# Altium integrated library Renesas Microcontroller H8S.IntLib: 670 symbols (part 31 of 70)
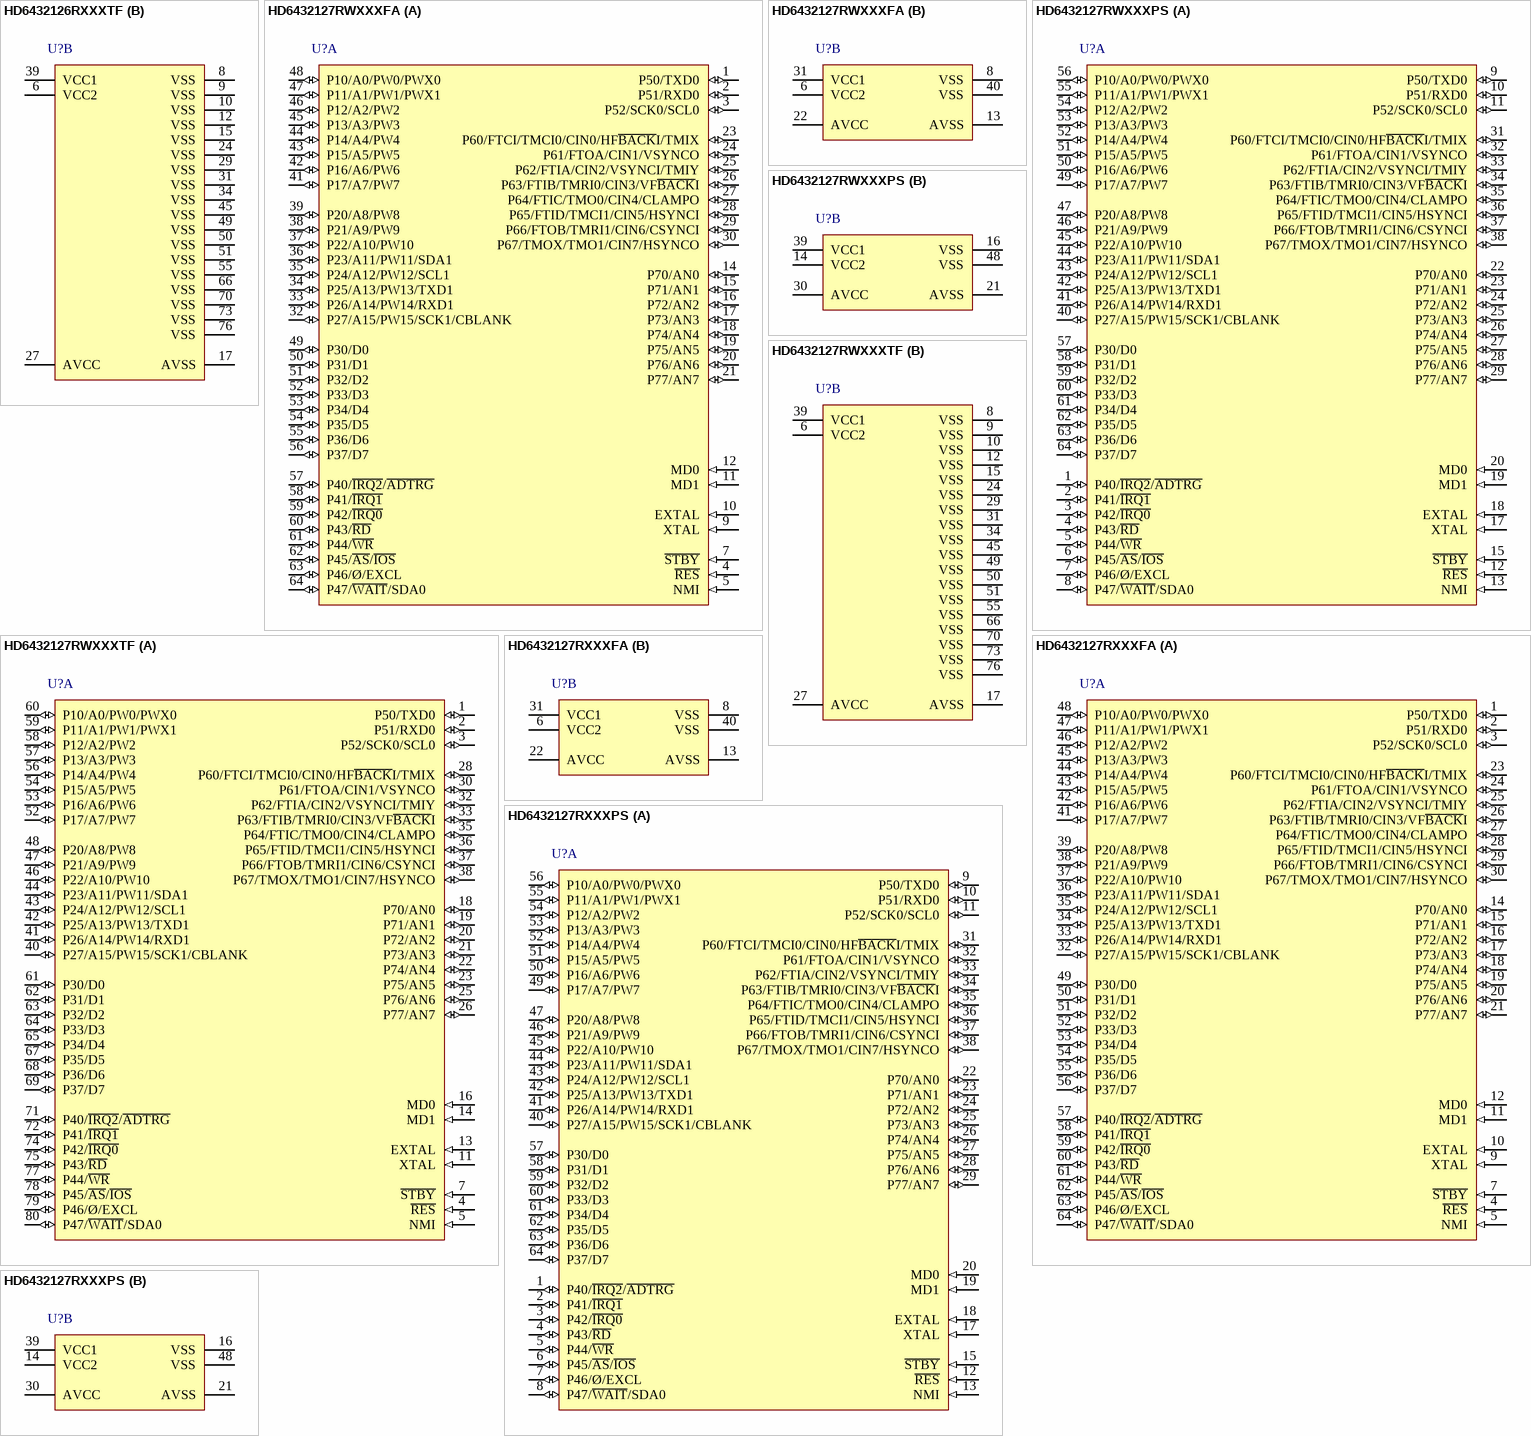
[diagram p260: symbols HD6432126RXXXTF to HD6432127RXXXPS]

## HD6432127RWXXXTF
designator U?
Mask ROM H8S/2100 Series, 2128 Group MCU, 64K ROM, 2K RAM, TFP-80C Pkg; Published: 28-Aug-2009; DatasheetVersion: Rev.3.0, Mar-2001; PackageVersion: Sep-2005; PackageReference: PTQP0080KC-A; Publisher: Altium Limited; PackageDescription: 80-Pin Plastic Thin Quad Flat Pack, 12 x 12 x 1.0 mm Body, 0.5 mm Pitch; Code_JEITA: P-TQFP80-12x12-0.50; ComponentLink1Description: Manufacturer Link; ComponentLink1URL: http://sg.renesas.com/fmwk.jsp?cnt=h8s_family_landing.jsp&fp=/products/mpumcu/h8s_family/; ComponentLink2Description: Datasheet; ComponentLink2URL: http://documentation.renesas.com/eng/products/mpumcu/e602114_h8s2128.pdf; ComponentLink3Description: Packaging Specification; ComponentLink3URL: http://sg.renesas.com/media/products/common_info/package/pdf/ic/code/ptqp0080kc_a.pdf
footprint PTQP0080KC-A_N (Thin QFP, 80-Leads, Body 12x12mm, Pitch 0.5mm, IPC Medium Density)
footprint PTQP0080KC-A_L (Thin QFP, 80-Leads, Body 12x12mm, Pitch 0.5mm, IPC High Density)
footprint PTQP0080KC-A_M (Thin QFP, 80-Leads, Body 12x12mm, Pitch 0.5mm, IPC Low Density)
part A pins: 1 P50/TXD0 (io), 2 P51/RXD0 (io), 3 P52/SCK0/SCL0 (io), 4 ~{RES} (in), 5 NMI (in), 7 ~{STBY} (in), 11 XTAL (in), 13 EXTAL (in), 14 MD1 (in), 16 MD0 (in), 18 P70/AN0 (io), 19 P71/AN1 (io), 20 P72/AN2 (io), 21 P73/AN3 (io), 22 P74/AN4 (io), 23 P75/AN5 (io), 25 P76/AN6 (io), 26 P77/AN7 (io), 28 P60/FTCI/TMCI0/CIN0/HF~{BACK}I/TMIX (io), 30 P61/FTOA/CIN1/VSYNCO (io), 32 P62/FTIA/CIN2/VSYNCI/TMIY (io), 33 P63/FTIB/TMRI0/CIN3/VF~{BACK}I (io), 35 P64/FTIC/TMO0/CIN4/CLAMPO (io), 36 P65/FTID/TMCI1/CIN5/HSYNCI (io), 37 P66/FTOB/TMRI1/CIN6/CSYNCI (io), 38 P67/TMOX/TMO1/CIN7/HSYNCO (io), 40 P27/A15/PW15/SCK1/CBLANK (io), 41 P26/A14/PW14/RXD1 (io), 42 P25/A13/PW13/TXD1 (io), 43 P24/A12/PW12/SCL1 (io), 44 P23/A11/PW11/SDA1 (io), 46 P22/A10/PW10 (io), 47 P21/A9/PW9 (io), 48 P20/A8/PW8 (io), 52 P17/A7/PW7 (io), 53 P16/A6/PW6 (io), 54 P15/A5/PW5 (io), 56 P14/A4/PW4 (io), 57 P13/A3/PW3 (io), 58 P12/A2/PW2 (io), 59 P11/A1/PW1/PWX1 (io), 60 P10/A0/PW0/PWX0 (io), 61 P30/D0 (io), 62 P31/D1 (io), 63 P32/D2 (io), 64 P33/D3 (io), 65 P34/D4 (io), 67 P35/D5 (io), 68 P36/D6 (io), 69 P37/D7 (io), 71 P40/~{IRQ2}/~{ADTRG} (io), 72 P41/~{IRQ1} (io), 74 P42/~{IRQ0} (io), 75 P43/~{RD} (io), 77 P44/~{WR} (io), 78 P45/~{AS}/~{IOS} (io), 79 P46/Ø/EXCL (io), 80 P47/~{WAIT}/SDA0 (io)
part B pins: 6 VCC2 (power), 8 VSS (power), 9 VSS (power), 10 VSS (power), 12 VSS (power), 15 VSS (power), 17 AVSS (power), 24 VSS (power), 27 AVCC (power), 29 VSS (power), 31 VSS (power), 34 VSS (power), 39 VCC1 (power), 45 VSS (power), 49 VSS (power), 50 VSS (power), 51 VSS (power), 55 VSS (power), 66 VSS (power), 70 VSS (power), 73 VSS (power), 76 VSS (power)

## HD6432127RXXXFA
designator U?
Mask ROM H8S/2100 Series, 2128 Group MCU, 64K ROM, 2K RAM, FP-64A Pkg; Published: 28-Aug-2009; DatasheetVersion: Rev.3.0, Mar-2001; PackageVersion: Sep-2005; PackageReference: PRQP0064GB-A; Publisher: Altium Limited; PackageDescription: 64-Pin Plastic Quad Flat Pack, 14 x 14 x 2.7 mm Body, 0.8 mm Pitch; Code_JEITA: P-QFP64-14x14-0.80; ComponentLink1Description: Manufacturer Link; ComponentLink1URL: http://sg.renesas.com/fmwk.jsp?cnt=h8s_family_landing.jsp&fp=/products/mpumcu/h8s_family/; ComponentLink2Description: Datasheet; ComponentLink2URL: http://documentation.renesas.com/eng/products/mpumcu/e602114_h8s2128.pdf; ComponentLink3Description: Packaging Specification; ComponentLink3URL: http://sg.renesas.com/media/products/common_info/package/pdf/ic/code/prqp0064gb_a.pdf
footprint PRQP0064GB-A_N (QFP, 64-Leads, Body 14x14mm, Pitch 0.8mm, IPC Medium Density)
footprint PRQP0064GB-A_L (QFP, 64-Leads, Body 14x14mm, Pitch 0.8mm, IPC High Density)
footprint PRQP0064GB-A_M (QFP, 64-Leads, Body 14x14mm, Pitch 0.8mm, IPC Low Density)
part A pins: 1 P50/TXD0 (io), 2 P51/RXD0 (io), 3 P52/SCK0/SCL0 (io), 4 ~{RES} (in), 5 NMI (in), 7 ~{STBY} (in), 9 XTAL (in), 10 EXTAL (in), 11 MD1 (in), 12 MD0 (in), 14 P70/AN0 (io), 15 P71/AN1 (io), 16 P72/AN2 (io), 17 P73/AN3 (io), 18 P74/AN4 (io), 19 P75/AN5 (io), 20 P76/AN6 (io), 21 P77/AN7 (io), 23 P60/FTCI/TMCI0/CIN0/HF~{BACK}I/TMIX (io), 24 P61/FTOA/CIN1/VSYNCO (io), 25 P62/FTIA/CIN2/VSYNCI/TMIY (io), 26 P63/FTIB/TMRI0/CIN3/VF~{BACK}I (io), 27 P64/FTIC/TMO0/CIN4/CLAMPO (io), 28 P65/FTID/TMCI1/CIN5/HSYNCI (io), 29 P66/FTOB/TMRI1/CIN6/CSYNCI (io), 30 P67/TMOX/TMO1/CIN7/HSYNCO (io), 32 P27/A15/PW15/SCK1/CBLANK (io), 33 P26/A14/PW14/RXD1 (io), 34 P25/A13/PW13/TXD1 (io), 35 P24/A12/PW12/SCL1 (io), 36 P23/A11/PW11/SDA1 (io), 37 P22/A10/PW10 (io), 38 P21/A9/PW9 (io), 39 P20/A8/PW8 (io), 41 P17/A7/PW7 (io), 42 P16/A6/PW6 (io), 43 P15/A5/PW5 (io), 44 P14/A4/PW4 (io), 45 P13/A3/PW3 (io), 46 P12/A2/PW2 (io), 47 P11/A1/PW1/PWX1 (io), 48 P10/A0/PW0/PWX0 (io), 49 P30/D0 (io), 50 P31/D1 (io), 51 P32/D2 (io), 52 P33/D3 (io), 53 P34/D4 (io), 54 P35/D5 (io), 55 P36/D6 (io), 56 P37/D7 (io), 57 P40/~{IRQ2}/~{ADTRG} (io), 58 P41/~{IRQ1} (io), 59 P42/~{IRQ0} (io), 60 P43/~{RD} (io), 61 P44/~{WR} (io), 62 P45/~{AS}/~{IOS} (io), 63 P46/Ø/EXCL (io), 64 P47/~{WAIT}/SDA0 (io)
part B pins: 6 VCC2 (power), 8 VSS (power), 13 AVSS (power), 22 AVCC (power), 31 VCC1 (power), 40 VSS (power)

## HD6432127RXXXPS
designator U?
Mask ROM H8S/2100 Series, 2128 Group MCU, 64K ROM, 2K RAM, DP-64S Pkg; Published: 28-Aug-2009; DatasheetVersion: Rev.3.0, Mar-2001; PackageVersion: Sep-2005; PackageReference: PRDP0064BB-A; Publisher: Altium Limited; PackageDescription: 64-Pin Plastic Shrink DIP, 57.6 x 17 mm Body, 19.05 mm Row Spacing , 1.778 mm Pitch; Code_JEITA: P-SDIP64-17x57.6-1.78; ComponentLink1Description: Manufacturer Link; ComponentLink1URL: http://sg.renesas.com/fmwk.jsp?cnt=h8s_family_landing.jsp&fp=/products/mpumcu/h8s_family/; ComponentLink2Description: Datasheet; ComponentLink2URL: http://documentation.renesas.com/eng/products/mpumcu/e602114_h8s2128.pdf; ComponentLink3Description: Packaging Specification; ComponentLink3URL: http://sg.renesas.com/media/products/common_info/package/pdf/ic/code/prdp0064bb_a.pdf
footprint PRDP0064BB-A (DIP, 64-Leads, Row Spacing 19.05mm, Pitch 1.778mm, Body 58.19x17.05mm)
part A pins: 1 P40/~{IRQ2}/~{ADTRG} (io), 2 P41/~{IRQ1} (io), 3 P42/~{IRQ0} (io), 4 P43/~{RD} (io), 5 P44/~{WR} (io), 6 P45/~{AS}/~{IOS} (io), 7 P46/Ø/EXCL (io), 8 P47/~{WAIT}/SDA0 (io), 9 P50/TXD0 (io), 10 P51/RXD0 (io), 11 P52/SCK0/SCL0 (io), 12 ~{RES} (in), 13 NMI (in), 15 ~{STBY} (in), 17 XTAL (in), 18 EXTAL (in), 19 MD1 (in), 20 MD0 (in), 22 P70/AN0 (io), 23 P71/AN1 (io), 24 P72/AN2 (io), 25 P73/AN3 (io), 26 P74/AN4 (io), 27 P75/AN5 (io), 28 P76/AN6 (io), 29 P77/AN7 (io), 31 P60/FTCI/TMCI0/CIN0/HF~{BACK}I/TMIX (io), 32 P61/FTOA/CIN1/VSYNCO (io), 33 P62/FTIA/CIN2/VSYNCI/TMIY (io), 34 P63/FTIB/TMRI0/CIN3/VF~{BACK}I (io), 35 P64/FTIC/TMO0/CIN4/CLAMPO (io), 36 P65/FTID/TMCI1/CIN5/HSYNCI (io), 37 P66/FTOB/TMRI1/CIN6/CSYNCI (io), 38 P67/TMOX/TMO1/CIN7/HSYNCO (io), 40 P27/A15/PW15/SCK1/CBLANK (io), 41 P26/A14/PW14/RXD1 (io), 42 P25/A13/PW13/TXD1 (io), 43 P24/A12/PW12/SCL1 (io), 44 P23/A11/PW11/SDA1 (io), 45 P22/A10/PW10 (io), 46 P21/A9/PW9 (io), 47 P20/A8/PW8 (io), 49 P17/A7/PW7 (io), 50 P16/A6/PW6 (io), 51 P15/A5/PW5 (io), 52 P14/A4/PW4 (io), 53 P13/A3/PW3 (io), 54 P12/A2/PW2 (io), 55 P11/A1/PW1/PWX1 (io), 56 P10/A0/PW0/PWX0 (io), 57 P30/D0 (io), 58 P31/D1 (io), 59 P32/D2 (io), 60 P33/D3 (io), 61 P34/D4 (io), 62 P35/D5 (io), 63 P36/D6 (io), 64 P37/D7 (io)
part B pins: 14 VCC2 (power), 16 VSS (power), 21 AVSS (power), 30 AVCC (power), 39 VCC1 (power), 48 VSS (power)

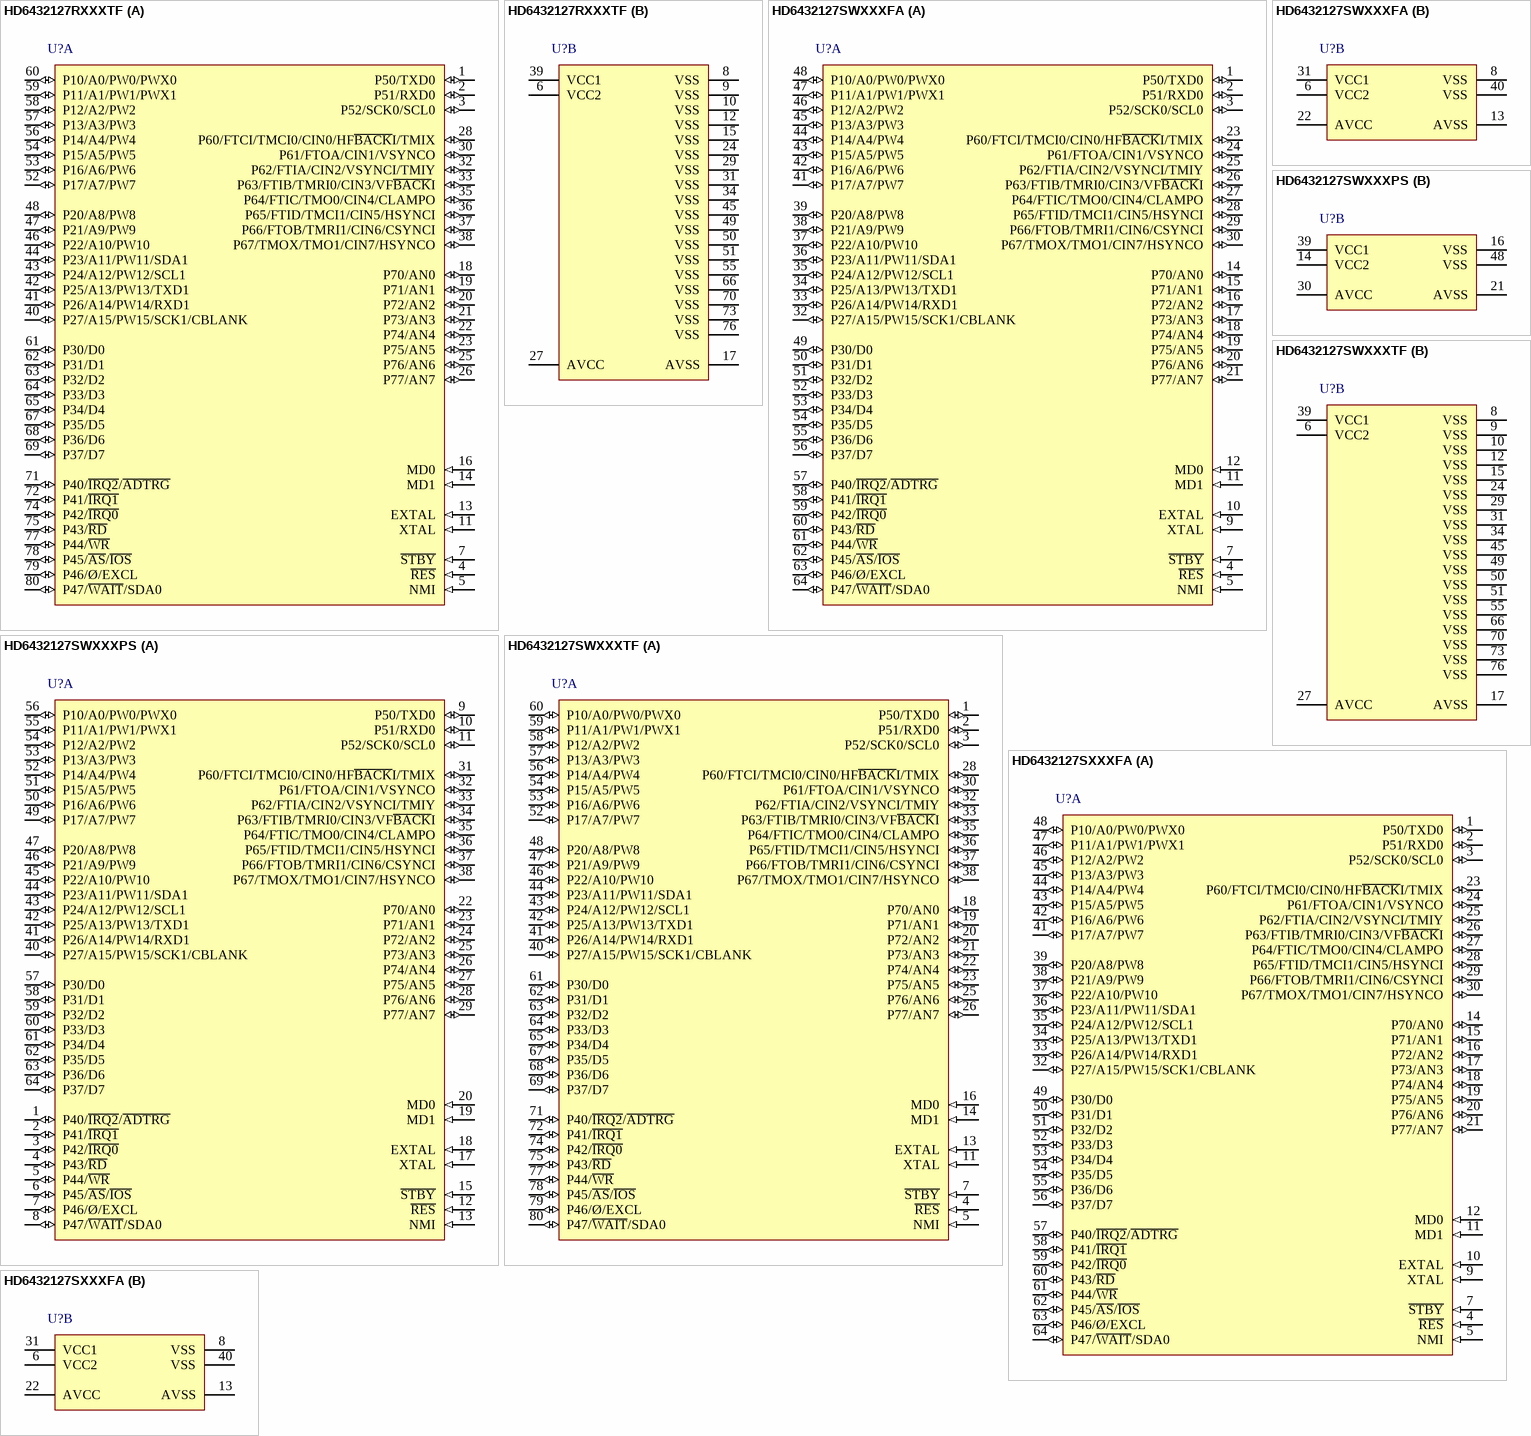
[diagram p105: symbols HD6432127RXXXTF to HD6432127SXXXFA]

## HD6432127RXXXTF
designator U?
Mask ROM H8S/2100 Series, 2128 Group MCU, 64K ROM, 2K RAM, TFP-80C Pkg; Published: 28-Aug-2009; DatasheetVersion: Rev.3.0, Mar-2001; PackageVersion: Sep-2005; PackageReference: PTQP0080KC-A; Publisher: Altium Limited; PackageDescription: 80-Pin Plastic Thin Quad Flat Pack, 12 x 12 x 1.0 mm Body, 0.5 mm Pitch; Code_JEITA: P-TQFP80-12x12-0.50; ComponentLink1Description: Manufacturer Link; ComponentLink1URL: http://sg.renesas.com/fmwk.jsp?cnt=h8s_family_landing.jsp&fp=/products/mpumcu/h8s_family/; ComponentLink2Description: Datasheet; ComponentLink2URL: http://documentation.renesas.com/eng/products/mpumcu/e602114_h8s2128.pdf; ComponentLink3Description: Packaging Specification; ComponentLink3URL: http://sg.renesas.com/media/products/common_info/package/pdf/ic/code/ptqp0080kc_a.pdf
footprint PTQP0080KC-A_N (Thin QFP, 80-Leads, Body 12x12mm, Pitch 0.5mm, IPC Medium Density)
footprint PTQP0080KC-A_L (Thin QFP, 80-Leads, Body 12x12mm, Pitch 0.5mm, IPC High Density)
footprint PTQP0080KC-A_M (Thin QFP, 80-Leads, Body 12x12mm, Pitch 0.5mm, IPC Low Density)
part A pins: 1 P50/TXD0 (io), 2 P51/RXD0 (io), 3 P52/SCK0/SCL0 (io), 4 ~{RES} (in), 5 NMI (in), 7 ~{STBY} (in), 11 XTAL (in), 13 EXTAL (in), 14 MD1 (in), 16 MD0 (in), 18 P70/AN0 (io), 19 P71/AN1 (io), 20 P72/AN2 (io), 21 P73/AN3 (io), 22 P74/AN4 (io), 23 P75/AN5 (io), 25 P76/AN6 (io), 26 P77/AN7 (io), 28 P60/FTCI/TMCI0/CIN0/HF~{BACK}I/TMIX (io), 30 P61/FTOA/CIN1/VSYNCO (io), 32 P62/FTIA/CIN2/VSYNCI/TMIY (io), 33 P63/FTIB/TMRI0/CIN3/VF~{BACK}I (io), 35 P64/FTIC/TMO0/CIN4/CLAMPO (io), 36 P65/FTID/TMCI1/CIN5/HSYNCI (io), 37 P66/FTOB/TMRI1/CIN6/CSYNCI (io), 38 P67/TMOX/TMO1/CIN7/HSYNCO (io), 40 P27/A15/PW15/SCK1/CBLANK (io), 41 P26/A14/PW14/RXD1 (io), 42 P25/A13/PW13/TXD1 (io), 43 P24/A12/PW12/SCL1 (io), 44 P23/A11/PW11/SDA1 (io), 46 P22/A10/PW10 (io), 47 P21/A9/PW9 (io), 48 P20/A8/PW8 (io), 52 P17/A7/PW7 (io), 53 P16/A6/PW6 (io), 54 P15/A5/PW5 (io), 56 P14/A4/PW4 (io), 57 P13/A3/PW3 (io), 58 P12/A2/PW2 (io), 59 P11/A1/PW1/PWX1 (io), 60 P10/A0/PW0/PWX0 (io), 61 P30/D0 (io), 62 P31/D1 (io), 63 P32/D2 (io), 64 P33/D3 (io), 65 P34/D4 (io), 67 P35/D5 (io), 68 P36/D6 (io), 69 P37/D7 (io), 71 P40/~{IRQ2}/~{ADTRG} (io), 72 P41/~{IRQ1} (io), 74 P42/~{IRQ0} (io), 75 P43/~{RD} (io), 77 P44/~{WR} (io), 78 P45/~{AS}/~{IOS} (io), 79 P46/Ø/EXCL (io), 80 P47/~{WAIT}/SDA0 (io)
part B pins: 6 VCC2 (power), 8 VSS (power), 9 VSS (power), 10 VSS (power), 12 VSS (power), 15 VSS (power), 17 AVSS (power), 24 VSS (power), 27 AVCC (power), 29 VSS (power), 31 VSS (power), 34 VSS (power), 39 VCC1 (power), 45 VSS (power), 49 VSS (power), 50 VSS (power), 51 VSS (power), 55 VSS (power), 66 VSS (power), 70 VSS (power), 73 VSS (power), 76 VSS (power)

## HD6432127SWXXXFA
designator U?
Mask ROM H8S/2100 Series, 2128 Group MCU, 64K ROM, 2K RAM, FP-64A Pkg; Published: 28-Aug-2009; DatasheetVersion: Rev.3.0, Mar-2001; PackageVersion: Sep-2005; PackageReference: PRQP0064GB-A; Publisher: Altium Limited; PackageDescription: 64-Pin Plastic Quad Flat Pack, 14 x 14 x 2.7 mm Body, 0.8 mm Pitch; Code_JEITA: P-QFP64-14x14-0.80; ComponentLink1Description: Manufacturer Link; ComponentLink1URL: http://sg.renesas.com/fmwk.jsp?cnt=h8s_family_landing.jsp&fp=/products/mpumcu/h8s_family/; ComponentLink2Description: Datasheet; ComponentLink2URL: http://documentation.renesas.com/eng/products/mpumcu/e602114_h8s2128.pdf; ComponentLink3Description: Packaging Specification; ComponentLink3URL: http://sg.renesas.com/media/products/common_info/package/pdf/ic/code/prqp0064gb_a.pdf
footprint PRQP0064GB-A_N (QFP, 64-Leads, Body 14x14mm, Pitch 0.8mm, IPC Medium Density)
footprint PRQP0064GB-A_L (QFP, 64-Leads, Body 14x14mm, Pitch 0.8mm, IPC High Density)
footprint PRQP0064GB-A_M (QFP, 64-Leads, Body 14x14mm, Pitch 0.8mm, IPC Low Density)
part A pins: 1 P50/TXD0 (io), 2 P51/RXD0 (io), 3 P52/SCK0/SCL0 (io), 4 ~{RES} (in), 5 NMI (in), 7 ~{STBY} (in), 9 XTAL (in), 10 EXTAL (in), 11 MD1 (in), 12 MD0 (in), 14 P70/AN0 (io), 15 P71/AN1 (io), 16 P72/AN2 (io), 17 P73/AN3 (io), 18 P74/AN4 (io), 19 P75/AN5 (io), 20 P76/AN6 (io), 21 P77/AN7 (io), 23 P60/FTCI/TMCI0/CIN0/HF~{BACK}I/TMIX (io), 24 P61/FTOA/CIN1/VSYNCO (io), 25 P62/FTIA/CIN2/VSYNCI/TMIY (io), 26 P63/FTIB/TMRI0/CIN3/VF~{BACK}I (io), 27 P64/FTIC/TMO0/CIN4/CLAMPO (io), 28 P65/FTID/TMCI1/CIN5/HSYNCI (io), 29 P66/FTOB/TMRI1/CIN6/CSYNCI (io), 30 P67/TMOX/TMO1/CIN7/HSYNCO (io), 32 P27/A15/PW15/SCK1/CBLANK (io), 33 P26/A14/PW14/RXD1 (io), 34 P25/A13/PW13/TXD1 (io), 35 P24/A12/PW12/SCL1 (io), 36 P23/A11/PW11/SDA1 (io), 37 P22/A10/PW10 (io), 38 P21/A9/PW9 (io), 39 P20/A8/PW8 (io), 41 P17/A7/PW7 (io), 42 P16/A6/PW6 (io), 43 P15/A5/PW5 (io), 44 P14/A4/PW4 (io), 45 P13/A3/PW3 (io), 46 P12/A2/PW2 (io), 47 P11/A1/PW1/PWX1 (io), 48 P10/A0/PW0/PWX0 (io), 49 P30/D0 (io), 50 P31/D1 (io), 51 P32/D2 (io), 52 P33/D3 (io), 53 P34/D4 (io), 54 P35/D5 (io), 55 P36/D6 (io), 56 P37/D7 (io), 57 P40/~{IRQ2}/~{ADTRG} (io), 58 P41/~{IRQ1} (io), 59 P42/~{IRQ0} (io), 60 P43/~{RD} (io), 61 P44/~{WR} (io), 62 P45/~{AS}/~{IOS} (io), 63 P46/Ø/EXCL (io), 64 P47/~{WAIT}/SDA0 (io)
part B pins: 6 VCC2 (power), 8 VSS (power), 13 AVSS (power), 22 AVCC (power), 31 VCC1 (power), 40 VSS (power)

## HD6432127SWXXXPS
designator U?
Mask ROM H8S/2100 Series, 2128 Group MCU, 64K ROM, 2K RAM, DP-64S Pkg; Published: 28-Aug-2009; DatasheetVersion: Rev.3.0, Mar-2001; PackageVersion: Sep-2005; PackageReference: PRDP0064BB-A; Publisher: Altium Limited; PackageDescription: 64-Pin Plastic Shrink DIP, 57.6 x 17 mm Body, 19.05 mm Row Spacing , 1.778 mm Pitch; Code_JEITA: P-SDIP64-17x57.6-1.78; ComponentLink1Description: Manufacturer Link; ComponentLink1URL: http://sg.renesas.com/fmwk.jsp?cnt=h8s_family_landing.jsp&fp=/products/mpumcu/h8s_family/; ComponentLink2Description: Datasheet; ComponentLink2URL: http://documentation.renesas.com/eng/products/mpumcu/e602114_h8s2128.pdf; ComponentLink3Description: Packaging Specification; ComponentLink3URL: http://sg.renesas.com/media/products/common_info/package/pdf/ic/code/prdp0064bb_a.pdf
footprint PRDP0064BB-A (DIP, 64-Leads, Row Spacing 19.05mm, Pitch 1.778mm, Body 58.19x17.05mm)
part A pins: 1 P40/~{IRQ2}/~{ADTRG} (io), 2 P41/~{IRQ1} (io), 3 P42/~{IRQ0} (io), 4 P43/~{RD} (io), 5 P44/~{WR} (io), 6 P45/~{AS}/~{IOS} (io), 7 P46/Ø/EXCL (io), 8 P47/~{WAIT}/SDA0 (io), 9 P50/TXD0 (io), 10 P51/RXD0 (io), 11 P52/SCK0/SCL0 (io), 12 ~{RES} (in), 13 NMI (in), 15 ~{STBY} (in), 17 XTAL (in), 18 EXTAL (in), 19 MD1 (in), 20 MD0 (in), 22 P70/AN0 (io), 23 P71/AN1 (io), 24 P72/AN2 (io), 25 P73/AN3 (io), 26 P74/AN4 (io), 27 P75/AN5 (io), 28 P76/AN6 (io), 29 P77/AN7 (io), 31 P60/FTCI/TMCI0/CIN0/HF~{BACK}I/TMIX (io), 32 P61/FTOA/CIN1/VSYNCO (io), 33 P62/FTIA/CIN2/VSYNCI/TMIY (io), 34 P63/FTIB/TMRI0/CIN3/VF~{BACK}I (io), 35 P64/FTIC/TMO0/CIN4/CLAMPO (io), 36 P65/FTID/TMCI1/CIN5/HSYNCI (io), 37 P66/FTOB/TMRI1/CIN6/CSYNCI (io), 38 P67/TMOX/TMO1/CIN7/HSYNCO (io), 40 P27/A15/PW15/SCK1/CBLANK (io), 41 P26/A14/PW14/RXD1 (io), 42 P25/A13/PW13/TXD1 (io), 43 P24/A12/PW12/SCL1 (io), 44 P23/A11/PW11/SDA1 (io), 45 P22/A10/PW10 (io), 46 P21/A9/PW9 (io), 47 P20/A8/PW8 (io), 49 P17/A7/PW7 (io), 50 P16/A6/PW6 (io), 51 P15/A5/PW5 (io), 52 P14/A4/PW4 (io), 53 P13/A3/PW3 (io), 54 P12/A2/PW2 (io), 55 P11/A1/PW1/PWX1 (io), 56 P10/A0/PW0/PWX0 (io), 57 P30/D0 (io), 58 P31/D1 (io), 59 P32/D2 (io), 60 P33/D3 (io), 61 P34/D4 (io), 62 P35/D5 (io), 63 P36/D6 (io), 64 P37/D7 (io)
part B pins: 14 VCC2 (power), 16 VSS (power), 21 AVSS (power), 30 AVCC (power), 39 VCC1 (power), 48 VSS (power)

## HD6432127SWXXXTF
designator U?
Mask ROM H8S/2100 Series, 2128 Group MCU, 64K ROM, 2K RAM, TFP-80C Pkg; Published: 28-Aug-2009; DatasheetVersion: Rev.3.0, Mar-2001; PackageVersion: Sep-2005; PackageReference: PTQP0080KC-A; Publisher: Altium Limited; PackageDescription: 80-Pin Plastic Thin Quad Flat Pack, 12 x 12 x 1.0 mm Body, 0.5 mm Pitch; Code_JEITA: P-TQFP80-12x12-0.50; ComponentLink1Description: Manufacturer Link; ComponentLink1URL: http://sg.renesas.com/fmwk.jsp?cnt=h8s_family_landing.jsp&fp=/products/mpumcu/h8s_family/; ComponentLink2Description: Datasheet; ComponentLink2URL: http://documentation.renesas.com/eng/products/mpumcu/e602114_h8s2128.pdf; ComponentLink3Description: Packaging Specification; ComponentLink3URL: http://sg.renesas.com/media/products/common_info/package/pdf/ic/code/ptqp0080kc_a.pdf
footprint PTQP0080KC-A_N (Thin QFP, 80-Leads, Body 12x12mm, Pitch 0.5mm, IPC Medium Density)
footprint PTQP0080KC-A_L (Thin QFP, 80-Leads, Body 12x12mm, Pitch 0.5mm, IPC High Density)
footprint PTQP0080KC-A_M (Thin QFP, 80-Leads, Body 12x12mm, Pitch 0.5mm, IPC Low Density)
part A pins: 1 P50/TXD0 (io), 2 P51/RXD0 (io), 3 P52/SCK0/SCL0 (io), 4 ~{RES} (in), 5 NMI (in), 7 ~{STBY} (in), 11 XTAL (in), 13 EXTAL (in), 14 MD1 (in), 16 MD0 (in), 18 P70/AN0 (io), 19 P71/AN1 (io), 20 P72/AN2 (io), 21 P73/AN3 (io), 22 P74/AN4 (io), 23 P75/AN5 (io), 25 P76/AN6 (io), 26 P77/AN7 (io), 28 P60/FTCI/TMCI0/CIN0/HF~{BACK}I/TMIX (io), 30 P61/FTOA/CIN1/VSYNCO (io), 32 P62/FTIA/CIN2/VSYNCI/TMIY (io), 33 P63/FTIB/TMRI0/CIN3/VF~{BACK}I (io), 35 P64/FTIC/TMO0/CIN4/CLAMPO (io), 36 P65/FTID/TMCI1/CIN5/HSYNCI (io), 37 P66/FTOB/TMRI1/CIN6/CSYNCI (io), 38 P67/TMOX/TMO1/CIN7/HSYNCO (io), 40 P27/A15/PW15/SCK1/CBLANK (io), 41 P26/A14/PW14/RXD1 (io), 42 P25/A13/PW13/TXD1 (io), 43 P24/A12/PW12/SCL1 (io), 44 P23/A11/PW11/SDA1 (io), 46 P22/A10/PW10 (io), 47 P21/A9/PW9 (io), 48 P20/A8/PW8 (io), 52 P17/A7/PW7 (io), 53 P16/A6/PW6 (io), 54 P15/A5/PW5 (io), 56 P14/A4/PW4 (io), 57 P13/A3/PW3 (io), 58 P12/A2/PW2 (io), 59 P11/A1/PW1/PWX1 (io), 60 P10/A0/PW0/PWX0 (io), 61 P30/D0 (io), 62 P31/D1 (io), 63 P32/D2 (io), 64 P33/D3 (io), 65 P34/D4 (io), 67 P35/D5 (io), 68 P36/D6 (io), 69 P37/D7 (io), 71 P40/~{IRQ2}/~{ADTRG} (io), 72 P41/~{IRQ1} (io), 74 P42/~{IRQ0} (io), 75 P43/~{RD} (io), 77 P44/~{WR} (io), 78 P45/~{AS}/~{IOS} (io), 79 P46/Ø/EXCL (io), 80 P47/~{WAIT}/SDA0 (io)
part B pins: 6 VCC2 (power), 8 VSS (power), 9 VSS (power), 10 VSS (power), 12 VSS (power), 15 VSS (power), 17 AVSS (power), 24 VSS (power), 27 AVCC (power), 29 VSS (power), 31 VSS (power), 34 VSS (power), 39 VCC1 (power), 45 VSS (power), 49 VSS (power), 50 VSS (power), 51 VSS (power), 55 VSS (power), 66 VSS (power), 70 VSS (power), 73 VSS (power), 76 VSS (power)

## HD6432127SXXXFA
designator U?
Mask ROM H8S/2100 Series, 2128 Group MCU, 64K ROM, 2K RAM, FP-64A Pkg; Published: 28-Aug-2009; DatasheetVersion: Rev.3.0, Mar-2001; PackageVersion: Sep-2005; PackageReference: PRQP0064GB-A; Publisher: Altium Limited; PackageDescription: 64-Pin Plastic Quad Flat Pack, 14 x 14 x 2.7 mm Body, 0.8 mm Pitch; Code_JEITA: P-QFP64-14x14-0.80; ComponentLink1Description: Manufacturer Link; ComponentLink1URL: http://sg.renesas.com/fmwk.jsp?cnt=h8s_family_landing.jsp&fp=/products/mpumcu/h8s_family/; ComponentLink2Description: Datasheet; ComponentLink2URL: http://documentation.renesas.com/eng/products/mpumcu/e602114_h8s2128.pdf; ComponentLink3Description: Packaging Specification; ComponentLink3URL: http://sg.renesas.com/media/products/common_info/package/pdf/ic/code/prqp0064gb_a.pdf
footprint PRQP0064GB-A_N (QFP, 64-Leads, Body 14x14mm, Pitch 0.8mm, IPC Medium Density)
footprint PRQP0064GB-A_L (QFP, 64-Leads, Body 14x14mm, Pitch 0.8mm, IPC High Density)
footprint PRQP0064GB-A_M (QFP, 64-Leads, Body 14x14mm, Pitch 0.8mm, IPC Low Density)
part A pins: 1 P50/TXD0 (io), 2 P51/RXD0 (io), 3 P52/SCK0/SCL0 (io), 4 ~{RES} (in), 5 NMI (in), 7 ~{STBY} (in), 9 XTAL (in), 10 EXTAL (in), 11 MD1 (in), 12 MD0 (in), 14 P70/AN0 (io), 15 P71/AN1 (io), 16 P72/AN2 (io), 17 P73/AN3 (io), 18 P74/AN4 (io), 19 P75/AN5 (io), 20 P76/AN6 (io), 21 P77/AN7 (io), 23 P60/FTCI/TMCI0/CIN0/HF~{BACK}I/TMIX (io), 24 P61/FTOA/CIN1/VSYNCO (io), 25 P62/FTIA/CIN2/VSYNCI/TMIY (io), 26 P63/FTIB/TMRI0/CIN3/VF~{BACK}I (io), 27 P64/FTIC/TMO0/CIN4/CLAMPO (io), 28 P65/FTID/TMCI1/CIN5/HSYNCI (io), 29 P66/FTOB/TMRI1/CIN6/CSYNCI (io), 30 P67/TMOX/TMO1/CIN7/HSYNCO (io), 32 P27/A15/PW15/SCK1/CBLANK (io), 33 P26/A14/PW14/RXD1 (io), 34 P25/A13/PW13/TXD1 (io), 35 P24/A12/PW12/SCL1 (io), 36 P23/A11/PW11/SDA1 (io), 37 P22/A10/PW10 (io), 38 P21/A9/PW9 (io), 39 P20/A8/PW8 (io), 41 P17/A7/PW7 (io), 42 P16/A6/PW6 (io), 43 P15/A5/PW5 (io), 44 P14/A4/PW4 (io), 45 P13/A3/PW3 (io), 46 P12/A2/PW2 (io), 47 P11/A1/PW1/PWX1 (io), 48 P10/A0/PW0/PWX0 (io), 49 P30/D0 (io), 50 P31/D1 (io), 51 P32/D2 (io), 52 P33/D3 (io), 53 P34/D4 (io), 54 P35/D5 (io), 55 P36/D6 (io), 56 P37/D7 (io), 57 P40/~{IRQ2}/~{ADTRG} (io), 58 P41/~{IRQ1} (io), 59 P42/~{IRQ0} (io), 60 P43/~{RD} (io), 61 P44/~{WR} (io), 62 P45/~{AS}/~{IOS} (io), 63 P46/Ø/EXCL (io), 64 P47/~{WAIT}/SDA0 (io)
part B pins: 6 VCC2 (power), 8 VSS (power), 13 AVSS (power), 22 AVCC (power), 31 VCC1 (power), 40 VSS (power)

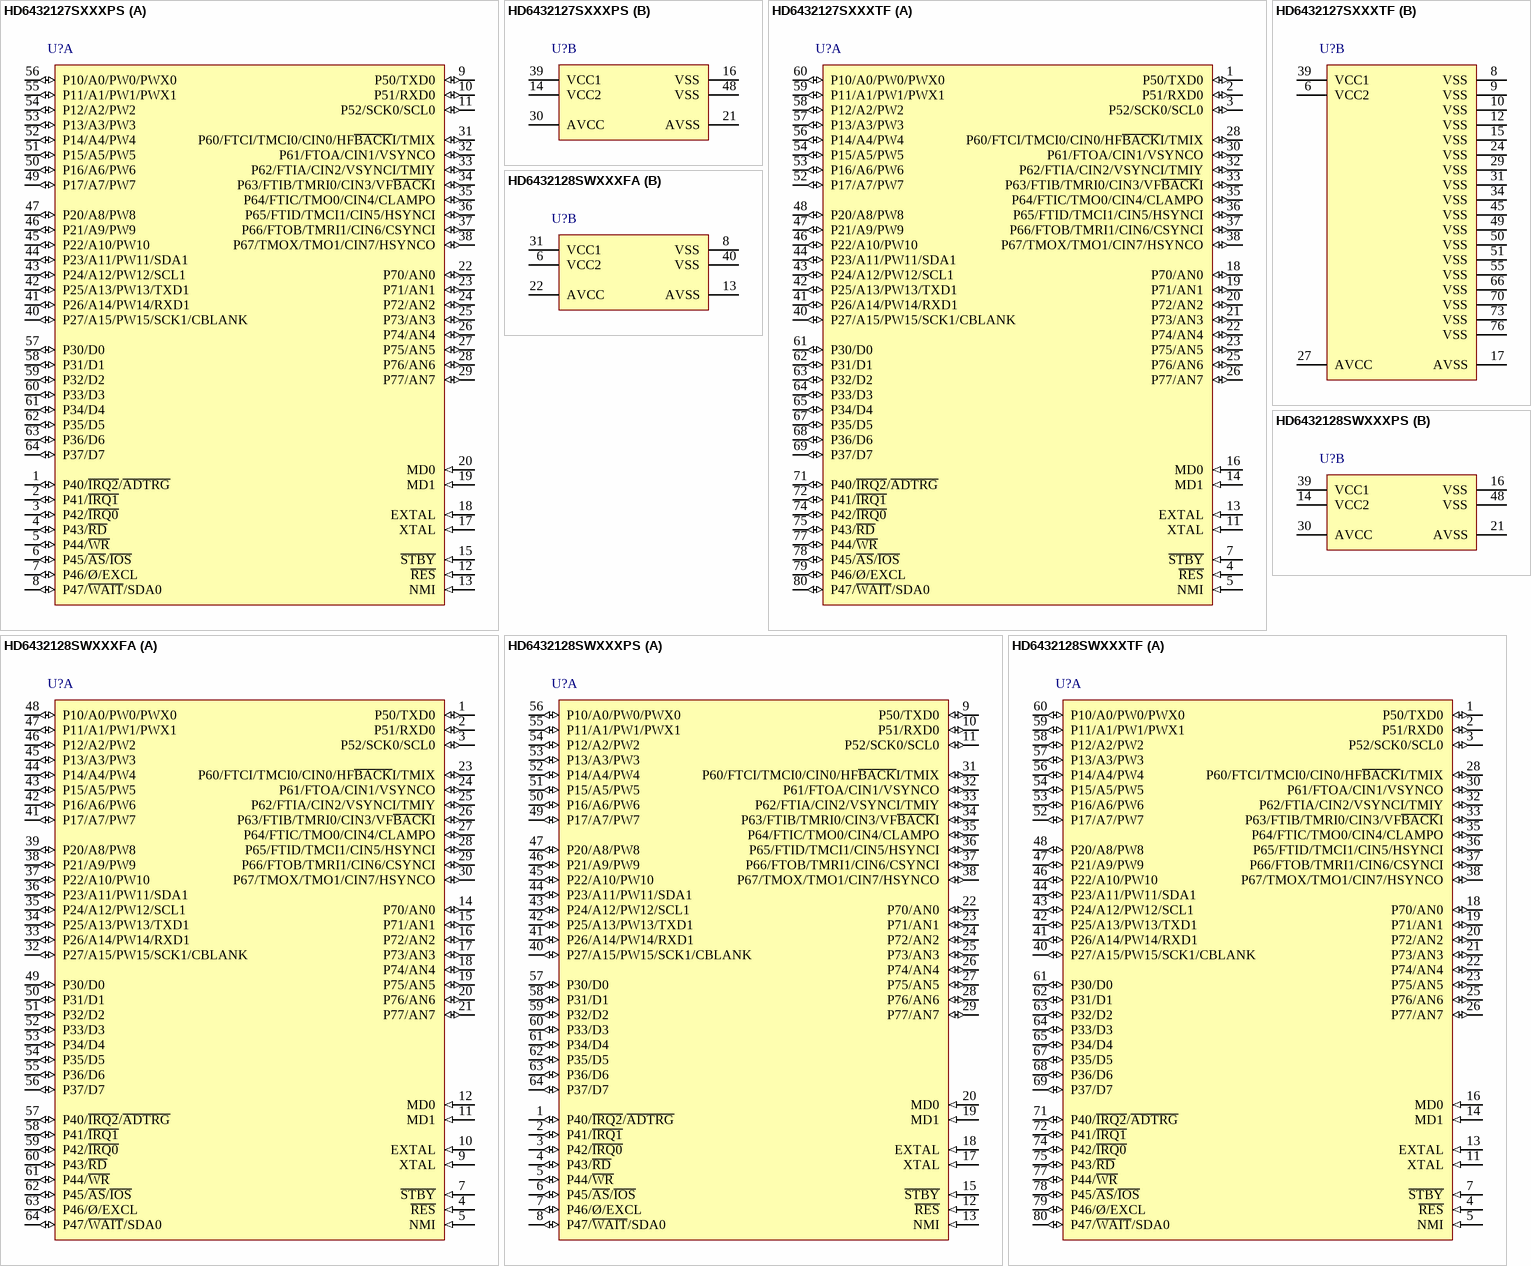
[diagram p106: symbols HD6432127SXXXPS to HD6432128SWXXXTF]

## HD6432127SXXXPS
designator U?
Mask ROM H8S/2100 Series, 2128 Group MCU, 64K ROM, 2K RAM, DP-64S Pkg; Published: 28-Aug-2009; DatasheetVersion: Rev.3.0, Mar-2001; PackageVersion: Sep-2005; PackageReference: PRDP0064BB-A; Publisher: Altium Limited; PackageDescription: 64-Pin Plastic Shrink DIP, 57.6 x 17 mm Body, 19.05 mm Row Spacing , 1.778 mm Pitch; Code_JEITA: P-SDIP64-17x57.6-1.78; ComponentLink1Description: Manufacturer Link; ComponentLink1URL: http://sg.renesas.com/fmwk.jsp?cnt=h8s_family_landing.jsp&fp=/products/mpumcu/h8s_family/; ComponentLink2Description: Datasheet; ComponentLink2URL: http://documentation.renesas.com/eng/products/mpumcu/e602114_h8s2128.pdf; ComponentLink3Description: Packaging Specification; ComponentLink3URL: http://sg.renesas.com/media/products/common_info/package/pdf/ic/code/prdp0064bb_a.pdf
footprint PRDP0064BB-A (DIP, 64-Leads, Row Spacing 19.05mm, Pitch 1.778mm, Body 58.19x17.05mm)
part A pins: 1 P40/~{IRQ2}/~{ADTRG} (io), 2 P41/~{IRQ1} (io), 3 P42/~{IRQ0} (io), 4 P43/~{RD} (io), 5 P44/~{WR} (io), 6 P45/~{AS}/~{IOS} (io), 7 P46/Ø/EXCL (io), 8 P47/~{WAIT}/SDA0 (io), 9 P50/TXD0 (io), 10 P51/RXD0 (io), 11 P52/SCK0/SCL0 (io), 12 ~{RES} (in), 13 NMI (in), 15 ~{STBY} (in), 17 XTAL (in), 18 EXTAL (in), 19 MD1 (in), 20 MD0 (in), 22 P70/AN0 (io), 23 P71/AN1 (io), 24 P72/AN2 (io), 25 P73/AN3 (io), 26 P74/AN4 (io), 27 P75/AN5 (io), 28 P76/AN6 (io), 29 P77/AN7 (io), 31 P60/FTCI/TMCI0/CIN0/HF~{BACK}I/TMIX (io), 32 P61/FTOA/CIN1/VSYNCO (io), 33 P62/FTIA/CIN2/VSYNCI/TMIY (io), 34 P63/FTIB/TMRI0/CIN3/VF~{BACK}I (io), 35 P64/FTIC/TMO0/CIN4/CLAMPO (io), 36 P65/FTID/TMCI1/CIN5/HSYNCI (io), 37 P66/FTOB/TMRI1/CIN6/CSYNCI (io), 38 P67/TMOX/TMO1/CIN7/HSYNCO (io), 40 P27/A15/PW15/SCK1/CBLANK (io), 41 P26/A14/PW14/RXD1 (io), 42 P25/A13/PW13/TXD1 (io), 43 P24/A12/PW12/SCL1 (io), 44 P23/A11/PW11/SDA1 (io), 45 P22/A10/PW10 (io), 46 P21/A9/PW9 (io), 47 P20/A8/PW8 (io), 49 P17/A7/PW7 (io), 50 P16/A6/PW6 (io), 51 P15/A5/PW5 (io), 52 P14/A4/PW4 (io), 53 P13/A3/PW3 (io), 54 P12/A2/PW2 (io), 55 P11/A1/PW1/PWX1 (io), 56 P10/A0/PW0/PWX0 (io), 57 P30/D0 (io), 58 P31/D1 (io), 59 P32/D2 (io), 60 P33/D3 (io), 61 P34/D4 (io), 62 P35/D5 (io), 63 P36/D6 (io), 64 P37/D7 (io)
part B pins: 14 VCC2 (power), 16 VSS (power), 21 AVSS (power), 30 AVCC (power), 39 VCC1 (power), 48 VSS (power)

## HD6432127SXXXTF
designator U?
Mask ROM H8S/2100 Series, 2128 Group MCU, 64K ROM, 2K RAM, TFP-80C Pkg; Published: 28-Aug-2009; DatasheetVersion: Rev.3.0, Mar-2001; PackageVersion: Sep-2005; PackageReference: PTQP0080KC-A; Publisher: Altium Limited; PackageDescription: 80-Pin Plastic Thin Quad Flat Pack, 12 x 12 x 1.0 mm Body, 0.5 mm Pitch; Code_JEITA: P-TQFP80-12x12-0.50; ComponentLink1Description: Manufacturer Link; ComponentLink1URL: http://sg.renesas.com/fmwk.jsp?cnt=h8s_family_landing.jsp&fp=/products/mpumcu/h8s_family/; ComponentLink2Description: Datasheet; ComponentLink2URL: http://documentation.renesas.com/eng/products/mpumcu/e602114_h8s2128.pdf; ComponentLink3Description: Packaging Specification; ComponentLink3URL: http://sg.renesas.com/media/products/common_info/package/pdf/ic/code/ptqp0080kc_a.pdf
footprint PTQP0080KC-A_N (Thin QFP, 80-Leads, Body 12x12mm, Pitch 0.5mm, IPC Medium Density)
footprint PTQP0080KC-A_L (Thin QFP, 80-Leads, Body 12x12mm, Pitch 0.5mm, IPC High Density)
footprint PTQP0080KC-A_M (Thin QFP, 80-Leads, Body 12x12mm, Pitch 0.5mm, IPC Low Density)
part A pins: 1 P50/TXD0 (io), 2 P51/RXD0 (io), 3 P52/SCK0/SCL0 (io), 4 ~{RES} (in), 5 NMI (in), 7 ~{STBY} (in), 11 XTAL (in), 13 EXTAL (in), 14 MD1 (in), 16 MD0 (in), 18 P70/AN0 (io), 19 P71/AN1 (io), 20 P72/AN2 (io), 21 P73/AN3 (io), 22 P74/AN4 (io), 23 P75/AN5 (io), 25 P76/AN6 (io), 26 P77/AN7 (io), 28 P60/FTCI/TMCI0/CIN0/HF~{BACK}I/TMIX (io), 30 P61/FTOA/CIN1/VSYNCO (io), 32 P62/FTIA/CIN2/VSYNCI/TMIY (io), 33 P63/FTIB/TMRI0/CIN3/VF~{BACK}I (io), 35 P64/FTIC/TMO0/CIN4/CLAMPO (io), 36 P65/FTID/TMCI1/CIN5/HSYNCI (io), 37 P66/FTOB/TMRI1/CIN6/CSYNCI (io), 38 P67/TMOX/TMO1/CIN7/HSYNCO (io), 40 P27/A15/PW15/SCK1/CBLANK (io), 41 P26/A14/PW14/RXD1 (io), 42 P25/A13/PW13/TXD1 (io), 43 P24/A12/PW12/SCL1 (io), 44 P23/A11/PW11/SDA1 (io), 46 P22/A10/PW10 (io), 47 P21/A9/PW9 (io), 48 P20/A8/PW8 (io), 52 P17/A7/PW7 (io), 53 P16/A6/PW6 (io), 54 P15/A5/PW5 (io), 56 P14/A4/PW4 (io), 57 P13/A3/PW3 (io), 58 P12/A2/PW2 (io), 59 P11/A1/PW1/PWX1 (io), 60 P10/A0/PW0/PWX0 (io), 61 P30/D0 (io), 62 P31/D1 (io), 63 P32/D2 (io), 64 P33/D3 (io), 65 P34/D4 (io), 67 P35/D5 (io), 68 P36/D6 (io), 69 P37/D7 (io), 71 P40/~{IRQ2}/~{ADTRG} (io), 72 P41/~{IRQ1} (io), 74 P42/~{IRQ0} (io), 75 P43/~{RD} (io), 77 P44/~{WR} (io), 78 P45/~{AS}/~{IOS} (io), 79 P46/Ø/EXCL (io), 80 P47/~{WAIT}/SDA0 (io)
part B pins: 6 VCC2 (power), 8 VSS (power), 9 VSS (power), 10 VSS (power), 12 VSS (power), 15 VSS (power), 17 AVSS (power), 24 VSS (power), 27 AVCC (power), 29 VSS (power), 31 VSS (power), 34 VSS (power), 39 VCC1 (power), 45 VSS (power), 49 VSS (power), 50 VSS (power), 51 VSS (power), 55 VSS (power), 66 VSS (power), 70 VSS (power), 73 VSS (power), 76 VSS (power)

## HD6432128SWXXXFA
designator U?
Mask ROM H8S/2100 Series, 2128 Group MCU, 128K ROM, 4K RAM, FP-64A Pkg; Published: 28-Aug-2009; DatasheetVersion: Rev.3.0, Mar-2001; PackageVersion: Sep-2005; PackageReference: PRQP0064GB-A; Publisher: Altium Limited; PackageDescription: 64-Pin Plastic Quad Flat Pack, 14 x 14 x 2.7 mm Body, 0.8 mm Pitch; Code_JEITA: P-QFP64-14x14-0.80; ComponentLink1Description: Manufacturer Link; ComponentLink1URL: http://sg.renesas.com/fmwk.jsp?cnt=h8s_family_landing.jsp&fp=/products/mpumcu/h8s_family/; ComponentLink2Description: Datasheet; ComponentLink2URL: http://documentation.renesas.com/eng/products/mpumcu/e602114_h8s2128.pdf; ComponentLink3Description: Packaging Specification; ComponentLink3URL: http://sg.renesas.com/media/products/common_info/package/pdf/ic/code/prqp0064gb_a.pdf
footprint PRQP0064GB-A_N (QFP, 64-Leads, Body 14x14mm, Pitch 0.8mm, IPC Medium Density)
footprint PRQP0064GB-A_L (QFP, 64-Leads, Body 14x14mm, Pitch 0.8mm, IPC High Density)
footprint PRQP0064GB-A_M (QFP, 64-Leads, Body 14x14mm, Pitch 0.8mm, IPC Low Density)
part A pins: 1 P50/TXD0 (io), 2 P51/RXD0 (io), 3 P52/SCK0/SCL0 (io), 4 ~{RES} (in), 5 NMI (in), 7 ~{STBY} (in), 9 XTAL (in), 10 EXTAL (in), 11 MD1 (in), 12 MD0 (in), 14 P70/AN0 (io), 15 P71/AN1 (io), 16 P72/AN2 (io), 17 P73/AN3 (io), 18 P74/AN4 (io), 19 P75/AN5 (io), 20 P76/AN6 (io), 21 P77/AN7 (io), 23 P60/FTCI/TMCI0/CIN0/HF~{BACK}I/TMIX (io), 24 P61/FTOA/CIN1/VSYNCO (io), 25 P62/FTIA/CIN2/VSYNCI/TMIY (io), 26 P63/FTIB/TMRI0/CIN3/VF~{BACK}I (io), 27 P64/FTIC/TMO0/CIN4/CLAMPO (io), 28 P65/FTID/TMCI1/CIN5/HSYNCI (io), 29 P66/FTOB/TMRI1/CIN6/CSYNCI (io), 30 P67/TMOX/TMO1/CIN7/HSYNCO (io), 32 P27/A15/PW15/SCK1/CBLANK (io), 33 P26/A14/PW14/RXD1 (io), 34 P25/A13/PW13/TXD1 (io), 35 P24/A12/PW12/SCL1 (io), 36 P23/A11/PW11/SDA1 (io), 37 P22/A10/PW10 (io), 38 P21/A9/PW9 (io), 39 P20/A8/PW8 (io), 41 P17/A7/PW7 (io), 42 P16/A6/PW6 (io), 43 P15/A5/PW5 (io), 44 P14/A4/PW4 (io), 45 P13/A3/PW3 (io), 46 P12/A2/PW2 (io), 47 P11/A1/PW1/PWX1 (io), 48 P10/A0/PW0/PWX0 (io), 49 P30/D0 (io), 50 P31/D1 (io), 51 P32/D2 (io), 52 P33/D3 (io), 53 P34/D4 (io), 54 P35/D5 (io), 55 P36/D6 (io), 56 P37/D7 (io), 57 P40/~{IRQ2}/~{ADTRG} (io), 58 P41/~{IRQ1} (io), 59 P42/~{IRQ0} (io), 60 P43/~{RD} (io), 61 P44/~{WR} (io), 62 P45/~{AS}/~{IOS} (io), 63 P46/Ø/EXCL (io), 64 P47/~{WAIT}/SDA0 (io)
part B pins: 6 VCC2 (power), 8 VSS (power), 13 AVSS (power), 22 AVCC (power), 31 VCC1 (power), 40 VSS (power)

## HD6432128SWXXXPS
designator U?
Mask ROM H8S/2100 Series, 2128 Group MCU, 128K ROM, 4K RAM, DP-64S Pkg; Published: 28-Aug-2009; DatasheetVersion: Rev.3.0, Mar-2001; PackageVersion: Sep-2005; PackageReference: PRDP0064BB-A; Publisher: Altium Limited; PackageDescription: 64-Pin Plastic Shrink DIP, 57.6 x 17 mm Body, 19.05 mm Row Spacing , 1.778 mm Pitch; Code_JEITA: P-SDIP64-17x57.6-1.78; ComponentLink1Description: Manufacturer Link; ComponentLink1URL: http://sg.renesas.com/fmwk.jsp?cnt=h8s_family_landing.jsp&fp=/products/mpumcu/h8s_family/; ComponentLink2Description: Datasheet; ComponentLink2URL: http://documentation.renesas.com/eng/products/mpumcu/e602114_h8s2128.pdf; ComponentLink3Description: Packaging Specification; ComponentLink3URL: http://sg.renesas.com/media/products/common_info/package/pdf/ic/code/prdp0064bb_a.pdf
footprint PRDP0064BB-A (DIP, 64-Leads, Row Spacing 19.05mm, Pitch 1.778mm, Body 58.19x17.05mm)
part A pins: 1 P40/~{IRQ2}/~{ADTRG} (io), 2 P41/~{IRQ1} (io), 3 P42/~{IRQ0} (io), 4 P43/~{RD} (io), 5 P44/~{WR} (io), 6 P45/~{AS}/~{IOS} (io), 7 P46/Ø/EXCL (io), 8 P47/~{WAIT}/SDA0 (io), 9 P50/TXD0 (io), 10 P51/RXD0 (io), 11 P52/SCK0/SCL0 (io), 12 ~{RES} (in), 13 NMI (in), 15 ~{STBY} (in), 17 XTAL (in), 18 EXTAL (in), 19 MD1 (in), 20 MD0 (in), 22 P70/AN0 (io), 23 P71/AN1 (io), 24 P72/AN2 (io), 25 P73/AN3 (io), 26 P74/AN4 (io), 27 P75/AN5 (io), 28 P76/AN6 (io), 29 P77/AN7 (io), 31 P60/FTCI/TMCI0/CIN0/HF~{BACK}I/TMIX (io), 32 P61/FTOA/CIN1/VSYNCO (io), 33 P62/FTIA/CIN2/VSYNCI/TMIY (io), 34 P63/FTIB/TMRI0/CIN3/VF~{BACK}I (io), 35 P64/FTIC/TMO0/CIN4/CLAMPO (io), 36 P65/FTID/TMCI1/CIN5/HSYNCI (io), 37 P66/FTOB/TMRI1/CIN6/CSYNCI (io), 38 P67/TMOX/TMO1/CIN7/HSYNCO (io), 40 P27/A15/PW15/SCK1/CBLANK (io), 41 P26/A14/PW14/RXD1 (io), 42 P25/A13/PW13/TXD1 (io), 43 P24/A12/PW12/SCL1 (io), 44 P23/A11/PW11/SDA1 (io), 45 P22/A10/PW10 (io), 46 P21/A9/PW9 (io), 47 P20/A8/PW8 (io), 49 P17/A7/PW7 (io), 50 P16/A6/PW6 (io), 51 P15/A5/PW5 (io), 52 P14/A4/PW4 (io), 53 P13/A3/PW3 (io), 54 P12/A2/PW2 (io), 55 P11/A1/PW1/PWX1 (io), 56 P10/A0/PW0/PWX0 (io), 57 P30/D0 (io), 58 P31/D1 (io), 59 P32/D2 (io), 60 P33/D3 (io), 61 P34/D4 (io), 62 P35/D5 (io), 63 P36/D6 (io), 64 P37/D7 (io)
part B pins: 14 VCC2 (power), 16 VSS (power), 21 AVSS (power), 30 AVCC (power), 39 VCC1 (power), 48 VSS (power)

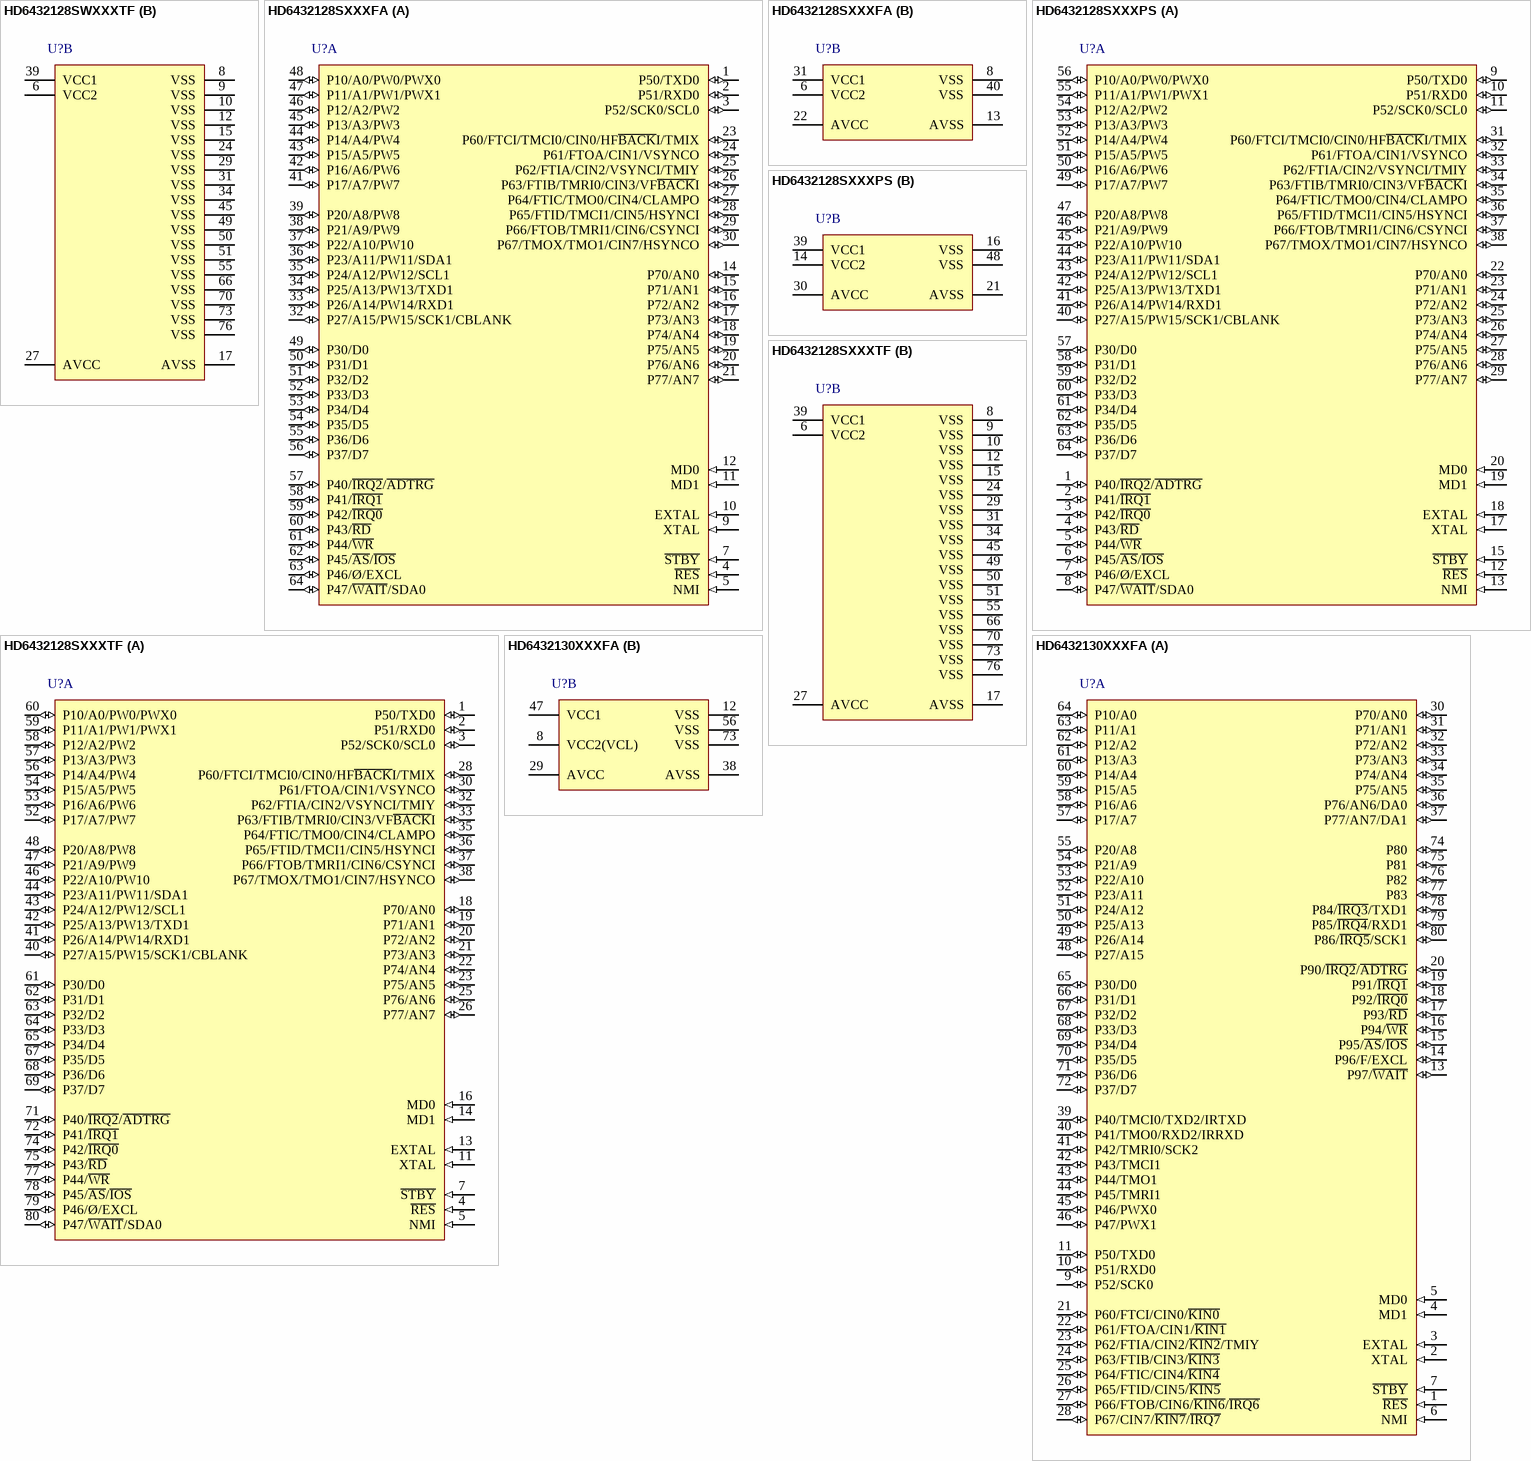
[diagram p107: symbols HD6432128SWXXXTF to HD6432130XXXFA]

## HD6432128SWXXXTF
designator U?
Mask ROM H8S/2100 Series, 2128 Group MCU, 128K ROM, 4K RAM, TFP-80C Pkg; Published: 28-Aug-2009; DatasheetVersion: Rev.3.0, Mar-2001; PackageVersion: Sep-2005; PackageReference: PTQP0080KC-A; Publisher: Altium Limited; PackageDescription: 80-Pin Plastic Thin Quad Flat Pack, 12 x 12 x 1.0 mm Body, 0.5 mm Pitch; Code_JEITA: P-TQFP80-12x12-0.50; ComponentLink1Description: Manufacturer Link; ComponentLink1URL: http://sg.renesas.com/fmwk.jsp?cnt=h8s_family_landing.jsp&fp=/products/mpumcu/h8s_family/; ComponentLink2Description: Datasheet; ComponentLink2URL: http://documentation.renesas.com/eng/products/mpumcu/e602114_h8s2128.pdf; ComponentLink3Description: Packaging Specification; ComponentLink3URL: http://sg.renesas.com/media/products/common_info/package/pdf/ic/code/ptqp0080kc_a.pdf
footprint PTQP0080KC-A_N (Thin QFP, 80-Leads, Body 12x12mm, Pitch 0.5mm, IPC Medium Density)
footprint PTQP0080KC-A_L (Thin QFP, 80-Leads, Body 12x12mm, Pitch 0.5mm, IPC High Density)
footprint PTQP0080KC-A_M (Thin QFP, 80-Leads, Body 12x12mm, Pitch 0.5mm, IPC Low Density)
part A pins: 1 P50/TXD0 (io), 2 P51/RXD0 (io), 3 P52/SCK0/SCL0 (io), 4 ~{RES} (in), 5 NMI (in), 7 ~{STBY} (in), 11 XTAL (in), 13 EXTAL (in), 14 MD1 (in), 16 MD0 (in), 18 P70/AN0 (io), 19 P71/AN1 (io), 20 P72/AN2 (io), 21 P73/AN3 (io), 22 P74/AN4 (io), 23 P75/AN5 (io), 25 P76/AN6 (io), 26 P77/AN7 (io), 28 P60/FTCI/TMCI0/CIN0/HF~{BACK}I/TMIX (io), 30 P61/FTOA/CIN1/VSYNCO (io), 32 P62/FTIA/CIN2/VSYNCI/TMIY (io), 33 P63/FTIB/TMRI0/CIN3/VF~{BACK}I (io), 35 P64/FTIC/TMO0/CIN4/CLAMPO (io), 36 P65/FTID/TMCI1/CIN5/HSYNCI (io), 37 P66/FTOB/TMRI1/CIN6/CSYNCI (io), 38 P67/TMOX/TMO1/CIN7/HSYNCO (io), 40 P27/A15/PW15/SCK1/CBLANK (io), 41 P26/A14/PW14/RXD1 (io), 42 P25/A13/PW13/TXD1 (io), 43 P24/A12/PW12/SCL1 (io), 44 P23/A11/PW11/SDA1 (io), 46 P22/A10/PW10 (io), 47 P21/A9/PW9 (io), 48 P20/A8/PW8 (io), 52 P17/A7/PW7 (io), 53 P16/A6/PW6 (io), 54 P15/A5/PW5 (io), 56 P14/A4/PW4 (io), 57 P13/A3/PW3 (io), 58 P12/A2/PW2 (io), 59 P11/A1/PW1/PWX1 (io), 60 P10/A0/PW0/PWX0 (io), 61 P30/D0 (io), 62 P31/D1 (io), 63 P32/D2 (io), 64 P33/D3 (io), 65 P34/D4 (io), 67 P35/D5 (io), 68 P36/D6 (io), 69 P37/D7 (io), 71 P40/~{IRQ2}/~{ADTRG} (io), 72 P41/~{IRQ1} (io), 74 P42/~{IRQ0} (io), 75 P43/~{RD} (io), 77 P44/~{WR} (io), 78 P45/~{AS}/~{IOS} (io), 79 P46/Ø/EXCL (io), 80 P47/~{WAIT}/SDA0 (io)
part B pins: 6 VCC2 (power), 8 VSS (power), 9 VSS (power), 10 VSS (power), 12 VSS (power), 15 VSS (power), 17 AVSS (power), 24 VSS (power), 27 AVCC (power), 29 VSS (power), 31 VSS (power), 34 VSS (power), 39 VCC1 (power), 45 VSS (power), 49 VSS (power), 50 VSS (power), 51 VSS (power), 55 VSS (power), 66 VSS (power), 70 VSS (power), 73 VSS (power), 76 VSS (power)

## HD6432128SXXXFA
designator U?
Mask ROM H8S/2100 Series, 2128 Group MCU, 128K ROM, 4K RAM, FP-64A Pkg; Published: 28-Aug-2009; DatasheetVersion: Rev.3.0, Mar-2001; PackageVersion: Sep-2005; PackageReference: PRQP0064GB-A; Publisher: Altium Limited; PackageDescription: 64-Pin Plastic Quad Flat Pack, 14 x 14 x 2.7 mm Body, 0.8 mm Pitch; Code_JEITA: P-QFP64-14x14-0.80; ComponentLink1Description: Manufacturer Link; ComponentLink1URL: http://sg.renesas.com/fmwk.jsp?cnt=h8s_family_landing.jsp&fp=/products/mpumcu/h8s_family/; ComponentLink2Description: Datasheet; ComponentLink2URL: http://documentation.renesas.com/eng/products/mpumcu/e602114_h8s2128.pdf; ComponentLink3Description: Packaging Specification; ComponentLink3URL: http://sg.renesas.com/media/products/common_info/package/pdf/ic/code/prqp0064gb_a.pdf
footprint PRQP0064GB-A_N (QFP, 64-Leads, Body 14x14mm, Pitch 0.8mm, IPC Medium Density)
footprint PRQP0064GB-A_L (QFP, 64-Leads, Body 14x14mm, Pitch 0.8mm, IPC High Density)
footprint PRQP0064GB-A_M (QFP, 64-Leads, Body 14x14mm, Pitch 0.8mm, IPC Low Density)
part A pins: 1 P50/TXD0 (io), 2 P51/RXD0 (io), 3 P52/SCK0/SCL0 (io), 4 ~{RES} (in), 5 NMI (in), 7 ~{STBY} (in), 9 XTAL (in), 10 EXTAL (in), 11 MD1 (in), 12 MD0 (in), 14 P70/AN0 (io), 15 P71/AN1 (io), 16 P72/AN2 (io), 17 P73/AN3 (io), 18 P74/AN4 (io), 19 P75/AN5 (io), 20 P76/AN6 (io), 21 P77/AN7 (io), 23 P60/FTCI/TMCI0/CIN0/HF~{BACK}I/TMIX (io), 24 P61/FTOA/CIN1/VSYNCO (io), 25 P62/FTIA/CIN2/VSYNCI/TMIY (io), 26 P63/FTIB/TMRI0/CIN3/VF~{BACK}I (io), 27 P64/FTIC/TMO0/CIN4/CLAMPO (io), 28 P65/FTID/TMCI1/CIN5/HSYNCI (io), 29 P66/FTOB/TMRI1/CIN6/CSYNCI (io), 30 P67/TMOX/TMO1/CIN7/HSYNCO (io), 32 P27/A15/PW15/SCK1/CBLANK (io), 33 P26/A14/PW14/RXD1 (io), 34 P25/A13/PW13/TXD1 (io), 35 P24/A12/PW12/SCL1 (io), 36 P23/A11/PW11/SDA1 (io), 37 P22/A10/PW10 (io), 38 P21/A9/PW9 (io), 39 P20/A8/PW8 (io), 41 P17/A7/PW7 (io), 42 P16/A6/PW6 (io), 43 P15/A5/PW5 (io), 44 P14/A4/PW4 (io), 45 P13/A3/PW3 (io), 46 P12/A2/PW2 (io), 47 P11/A1/PW1/PWX1 (io), 48 P10/A0/PW0/PWX0 (io), 49 P30/D0 (io), 50 P31/D1 (io), 51 P32/D2 (io), 52 P33/D3 (io), 53 P34/D4 (io), 54 P35/D5 (io), 55 P36/D6 (io), 56 P37/D7 (io), 57 P40/~{IRQ2}/~{ADTRG} (io), 58 P41/~{IRQ1} (io), 59 P42/~{IRQ0} (io), 60 P43/~{RD} (io), 61 P44/~{WR} (io), 62 P45/~{AS}/~{IOS} (io), 63 P46/Ø/EXCL (io), 64 P47/~{WAIT}/SDA0 (io)
part B pins: 6 VCC2 (power), 8 VSS (power), 13 AVSS (power), 22 AVCC (power), 31 VCC1 (power), 40 VSS (power)

## HD6432128SXXXPS
designator U?
Mask ROM H8S/2100 Series, 2128 Group MCU, 128K ROM, 4K RAM, DP-64S Pkg; Published: 28-Aug-2009; DatasheetVersion: Rev.3.0, Mar-2001; PackageVersion: Sep-2005; PackageReference: PRDP0064BB-A; Publisher: Altium Limited; PackageDescription: 64-Pin Plastic Shrink DIP, 57.6 x 17 mm Body, 19.05 mm Row Spacing , 1.778 mm Pitch; Code_JEITA: P-SDIP64-17x57.6-1.78; ComponentLink1Description: Manufacturer Link; ComponentLink1URL: http://sg.renesas.com/fmwk.jsp?cnt=h8s_family_landing.jsp&fp=/products/mpumcu/h8s_family/; ComponentLink2Description: Datasheet; ComponentLink2URL: http://documentation.renesas.com/eng/products/mpumcu/e602114_h8s2128.pdf; ComponentLink3Description: Packaging Specification; ComponentLink3URL: http://sg.renesas.com/media/products/common_info/package/pdf/ic/code/prdp0064bb_a.pdf
footprint PRDP0064BB-A (DIP, 64-Leads, Row Spacing 19.05mm, Pitch 1.778mm, Body 58.19x17.05mm)
part A pins: 1 P40/~{IRQ2}/~{ADTRG} (io), 2 P41/~{IRQ1} (io), 3 P42/~{IRQ0} (io), 4 P43/~{RD} (io), 5 P44/~{WR} (io), 6 P45/~{AS}/~{IOS} (io), 7 P46/Ø/EXCL (io), 8 P47/~{WAIT}/SDA0 (io), 9 P50/TXD0 (io), 10 P51/RXD0 (io), 11 P52/SCK0/SCL0 (io), 12 ~{RES} (in), 13 NMI (in), 15 ~{STBY} (in), 17 XTAL (in), 18 EXTAL (in), 19 MD1 (in), 20 MD0 (in), 22 P70/AN0 (io), 23 P71/AN1 (io), 24 P72/AN2 (io), 25 P73/AN3 (io), 26 P74/AN4 (io), 27 P75/AN5 (io), 28 P76/AN6 (io), 29 P77/AN7 (io), 31 P60/FTCI/TMCI0/CIN0/HF~{BACK}I/TMIX (io), 32 P61/FTOA/CIN1/VSYNCO (io), 33 P62/FTIA/CIN2/VSYNCI/TMIY (io), 34 P63/FTIB/TMRI0/CIN3/VF~{BACK}I (io), 35 P64/FTIC/TMO0/CIN4/CLAMPO (io), 36 P65/FTID/TMCI1/CIN5/HSYNCI (io), 37 P66/FTOB/TMRI1/CIN6/CSYNCI (io), 38 P67/TMOX/TMO1/CIN7/HSYNCO (io), 40 P27/A15/PW15/SCK1/CBLANK (io), 41 P26/A14/PW14/RXD1 (io), 42 P25/A13/PW13/TXD1 (io), 43 P24/A12/PW12/SCL1 (io), 44 P23/A11/PW11/SDA1 (io), 45 P22/A10/PW10 (io), 46 P21/A9/PW9 (io), 47 P20/A8/PW8 (io), 49 P17/A7/PW7 (io), 50 P16/A6/PW6 (io), 51 P15/A5/PW5 (io), 52 P14/A4/PW4 (io), 53 P13/A3/PW3 (io), 54 P12/A2/PW2 (io), 55 P11/A1/PW1/PWX1 (io), 56 P10/A0/PW0/PWX0 (io), 57 P30/D0 (io), 58 P31/D1 (io), 59 P32/D2 (io), 60 P33/D3 (io), 61 P34/D4 (io), 62 P35/D5 (io), 63 P36/D6 (io), 64 P37/D7 (io)
part B pins: 14 VCC2 (power), 16 VSS (power), 21 AVSS (power), 30 AVCC (power), 39 VCC1 (power), 48 VSS (power)

## HD6432128SXXXTF
designator U?
Mask ROM H8S/2100 Series, 2128 Group MCU, 128K ROM, 4K RAM, TFP-80C Pkg; Published: 28-Aug-2009; DatasheetVersion: Rev.3.0, Mar-2001; PackageVersion: Sep-2005; PackageReference: PTQP0080KC-A; Publisher: Altium Limited; PackageDescription: 80-Pin Plastic Thin Quad Flat Pack, 12 x 12 x 1.0 mm Body, 0.5 mm Pitch; Code_JEITA: P-TQFP80-12x12-0.50; ComponentLink1Description: Manufacturer Link; ComponentLink1URL: http://sg.renesas.com/fmwk.jsp?cnt=h8s_family_landing.jsp&fp=/products/mpumcu/h8s_family/; ComponentLink2Description: Datasheet; ComponentLink2URL: http://documentation.renesas.com/eng/products/mpumcu/e602114_h8s2128.pdf; ComponentLink3Description: Packaging Specification; ComponentLink3URL: http://sg.renesas.com/media/products/common_info/package/pdf/ic/code/ptqp0080kc_a.pdf
footprint PTQP0080KC-A_N (Thin QFP, 80-Leads, Body 12x12mm, Pitch 0.5mm, IPC Medium Density)
footprint PTQP0080KC-A_L (Thin QFP, 80-Leads, Body 12x12mm, Pitch 0.5mm, IPC High Density)
footprint PTQP0080KC-A_M (Thin QFP, 80-Leads, Body 12x12mm, Pitch 0.5mm, IPC Low Density)
part A pins: 1 P50/TXD0 (io), 2 P51/RXD0 (io), 3 P52/SCK0/SCL0 (io), 4 ~{RES} (in), 5 NMI (in), 7 ~{STBY} (in), 11 XTAL (in), 13 EXTAL (in), 14 MD1 (in), 16 MD0 (in), 18 P70/AN0 (io), 19 P71/AN1 (io), 20 P72/AN2 (io), 21 P73/AN3 (io), 22 P74/AN4 (io), 23 P75/AN5 (io), 25 P76/AN6 (io), 26 P77/AN7 (io), 28 P60/FTCI/TMCI0/CIN0/HF~{BACK}I/TMIX (io), 30 P61/FTOA/CIN1/VSYNCO (io), 32 P62/FTIA/CIN2/VSYNCI/TMIY (io), 33 P63/FTIB/TMRI0/CIN3/VF~{BACK}I (io), 35 P64/FTIC/TMO0/CIN4/CLAMPO (io), 36 P65/FTID/TMCI1/CIN5/HSYNCI (io), 37 P66/FTOB/TMRI1/CIN6/CSYNCI (io), 38 P67/TMOX/TMO1/CIN7/HSYNCO (io), 40 P27/A15/PW15/SCK1/CBLANK (io), 41 P26/A14/PW14/RXD1 (io), 42 P25/A13/PW13/TXD1 (io), 43 P24/A12/PW12/SCL1 (io), 44 P23/A11/PW11/SDA1 (io), 46 P22/A10/PW10 (io), 47 P21/A9/PW9 (io), 48 P20/A8/PW8 (io), 52 P17/A7/PW7 (io), 53 P16/A6/PW6 (io), 54 P15/A5/PW5 (io), 56 P14/A4/PW4 (io), 57 P13/A3/PW3 (io), 58 P12/A2/PW2 (io), 59 P11/A1/PW1/PWX1 (io), 60 P10/A0/PW0/PWX0 (io), 61 P30/D0 (io), 62 P31/D1 (io), 63 P32/D2 (io), 64 P33/D3 (io), 65 P34/D4 (io), 67 P35/D5 (io), 68 P36/D6 (io), 69 P37/D7 (io), 71 P40/~{IRQ2}/~{ADTRG} (io), 72 P41/~{IRQ1} (io), 74 P42/~{IRQ0} (io), 75 P43/~{RD} (io), 77 P44/~{WR} (io), 78 P45/~{AS}/~{IOS} (io), 79 P46/Ø/EXCL (io), 80 P47/~{WAIT}/SDA0 (io)
part B pins: 6 VCC2 (power), 8 VSS (power), 9 VSS (power), 10 VSS (power), 12 VSS (power), 15 VSS (power), 17 AVSS (power), 24 VSS (power), 27 AVCC (power), 29 VSS (power), 31 VSS (power), 34 VSS (power), 39 VCC1 (power), 45 VSS (power), 49 VSS (power), 50 VSS (power), 51 VSS (power), 55 VSS (power), 66 VSS (power), 70 VSS (power), 73 VSS (power), 76 VSS (power)

## HD6432130XXXFA
designator U?
Mask ROM H8S/2100 Series, 2134 Group MCU, 32K ROM, 2K RAM, FP-80A Pkg; Published: 28-Aug-2009; DatasheetVersion: Rev.4.00, Jun-2006; PackageVersion: Sep-2005; PackageReference: PRQP0080JB-A; Publisher: Altium Limited; PackageDescription: 80-Pin Plastic Quad Flat Pack, 14 x 14 x 2.7 mm Body, 0.65 mm Pitch; Code_JEITA: P-QFP80-14x14-0.65; Code_IPC: QFP65P1720X1720-80; ComponentLink1Description: Manufacturer Link; ComponentLink1URL: http://sg.renesas.com/fmwk.jsp?cnt=h8s_family_landing.jsp&fp=/products/mpumcu/h8s_family/; ComponentLink2Description: Datasheet; ComponentLink2URL: http://documentation.renesas.com/eng/products/mpumcu/rej09b0301_2138hm.pdf; ComponentLink3Description: Packaging Specification; ComponentLink3URL: http://sg.renesas.com/media/products/common_info/package/pdf/ic/code/prqp0080jb_a.pdf
footprint PRQP0080JB-A_N (QFP, 80-Leads, Body 14x14mm, Pitch 0.65mm, IPC Medium Density)
footprint PRQP0080JB-A_L (QFP, 80-Leads, Body 14x14mm, Pitch 0.65mm, IPC High Density)
footprint PRQP0080JB-A_M (QFP, 80-Leads, Body 14x14mm, Pitch 0.65mm, IPC Low Density)
part A pins: 1 ~{RES} (in), 2 XTAL (in), 3 EXTAL (in), 4 MD1 (in), 5 MD0 (in), 6 NMI (in), 7 ~{STBY} (in), 9 P52/SCK0 (io), 10 P51/RXD0 (io), 11 P50/TXD0 (io), 13 P97/~{WAIT} (io), 14 P96/F/EXCL (io), 15 P95/~{AS}/~{IOS} (io), 16 P94/~{WR} (io), 17 P93/~{RD} (io), 18 P92/~{IRQ0} (io), 19 P91/~{IRQ1} (io), 20 P90/~{IRQ2}/~{ADTRG} (io), 21 P60/FTCI/CIN0/~{KIN0} (io), 22 P61/FTOA/CIN1/~{KIN1} (io), 23 P62/FTIA/CIN2/~{KIN2}/TMIY (io), 24 P63/FTIB/CIN3/~{KIN3} (io), 25 P64/FTIC/CIN4/~{KIN4} (io), 26 P65/FTID/CIN5/~{KIN5} (io), 27 P66/FTOB/CIN6/~{KIN6}/~{IRQ6} (io), 28 P67/CIN7/~{KIN7}/~{IRQ7} (io), 30 P70/AN0 (io), 31 P71/AN1 (io), 32 P72/AN2 (io), 33 P73/AN3 (io), 34 P74/AN4 (io), 35 P75/AN5 (io), 36 P76/AN6/DA0 (io), 37 P77/AN7/DA1 (io), 39 P40/TMCI0/TXD2/IRTXD (io), 40 P41/TMO0/RXD2/IRRXD (io), 41 P42/TMRI0/SCK2 (io), 42 P43/TMCI1 (io), 43 P44/TMO1 (io), 44 P45/TMRI1 (io), 45 P46/PWX0 (io), 46 P47/PWX1 (io), 48 P27/A15 (io), 49 P26/A14 (io), 50 P25/A13 (io), 51 P24/A12 (io), 52 P23/A11 (io), 53 P22/A10 (io), 54 P21/A9 (io), 55 P20/A8 (io), 57 P17/A7 (io), 58 P16/A6 (io), 59 P15/A5 (io), 60 P14/A4 (io), 61 P13/A3 (io), 62 P12/A2 (io), 63 P11/A1 (io), 64 P10/A0 (io), 65 P30/D0 (io), 66 P31/D1 (io), 67 P32/D2 (io), 68 P33/D3 (io), 69 P34/D4 (io), 70 P35/D5 (io), 71 P36/D6 (io), 72 P37/D7 (io), 74 P80 (io), 75 P81 (io), 76 P82 (io), 77 P83 (io), 78 P84/~{IRQ3}/TXD1 (io), 79 P85/~{IRQ4}/RXD1 (io), 80 P86/~{IRQ5}/SCK1 (io)
part B pins: 8 VCC2(VCL), 12 VSS (power), 29 AVCC (power), 38 AVSS (power), 47 VCC1 (power), 56 VSS (power), 73 VSS (power)

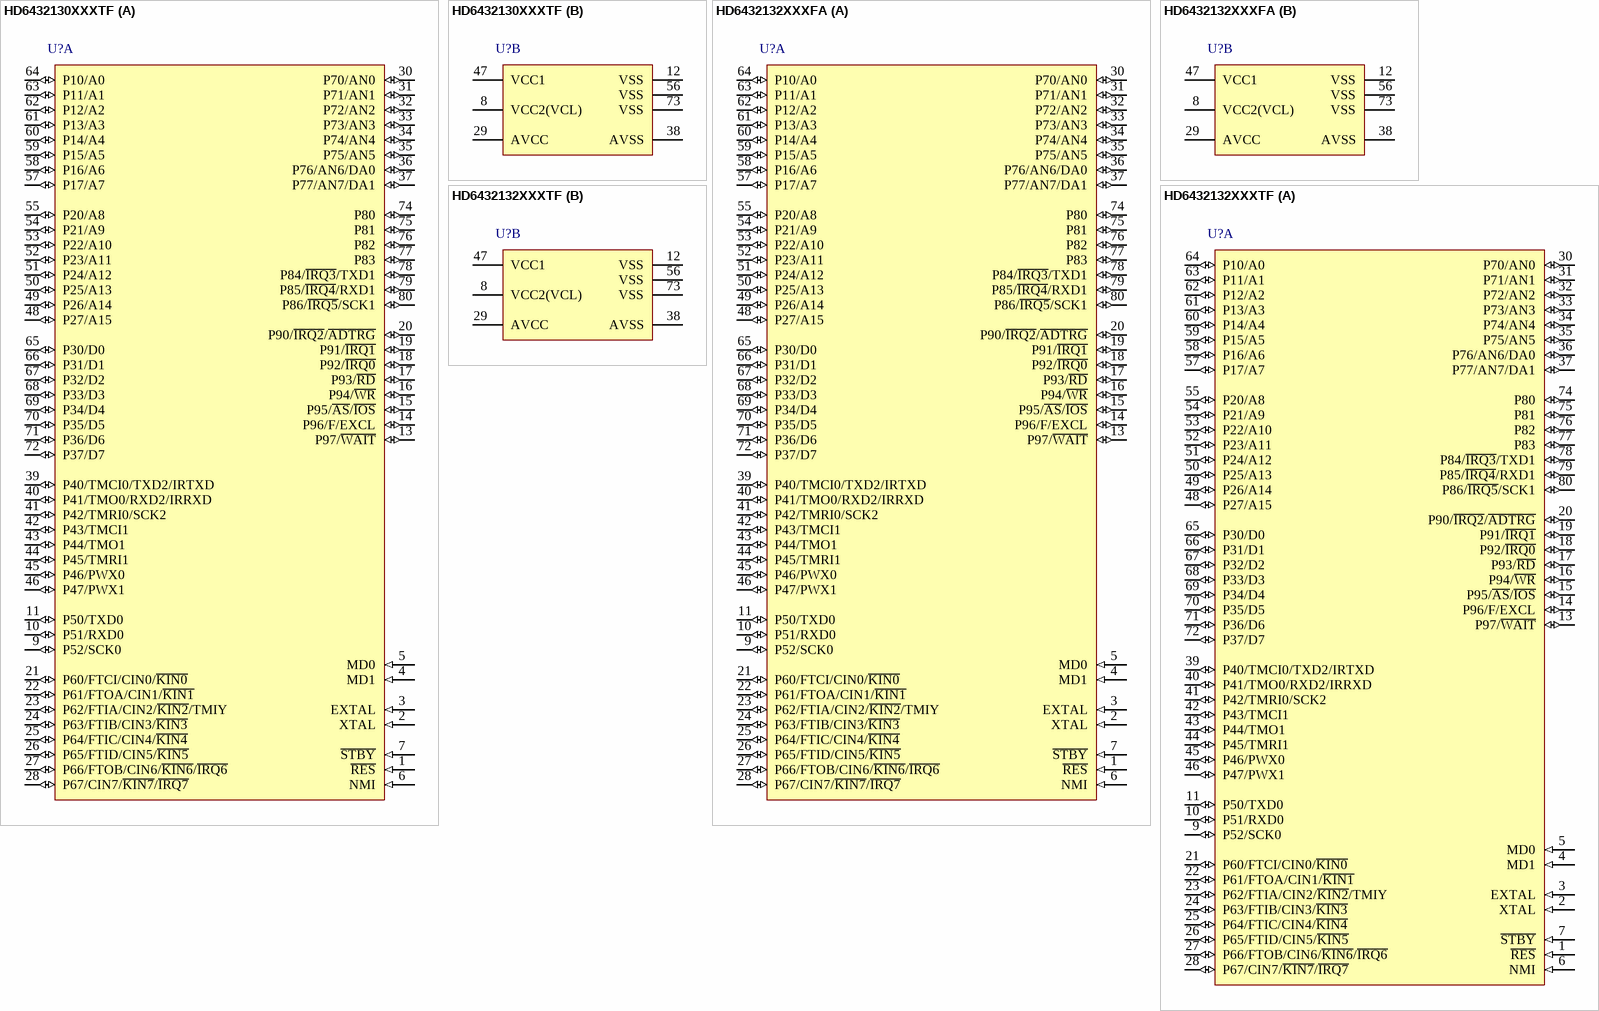
[diagram p108: symbols HD6432130XXXTF to HD6432132XXXTF]

## HD6432130XXXTF
designator U?
Mask ROM H8S/2100 Series, 2134 Group MCU, 32K ROM, 2K RAM, TFP-80C Pkg; Published: 28-Aug-2009; DatasheetVersion: Rev.4.00, Jun-2006; PackageVersion: Sep-2005; PackageReference: PTQP0080KC-A; Publisher: Altium Limited; PackageDescription: 80-Pin Plastic Thin Quad Flat Pack, 12 x 12 x 1.0 mm Body, 0.5 mm Pitch; Code_JEITA: P-TQFP80-12x12-0.50; ComponentLink1Description: Manufacturer Link; ComponentLink1URL: http://sg.renesas.com/fmwk.jsp?cnt=h8s_family_landing.jsp&fp=/products/mpumcu/h8s_family/; ComponentLink2Description: Datasheet; ComponentLink2URL: http://documentation.renesas.com/eng/products/mpumcu/rej09b0301_2138hm.pdf; ComponentLink3Description: Packaging Specification; ComponentLink3URL: http://sg.renesas.com/media/products/common_info/package/pdf/ic/code/ptqp0080kc_a.pdf
footprint PTQP0080KC-A_N (Thin QFP, 80-Leads, Body 12x12mm, Pitch 0.5mm, IPC Medium Density)
footprint PTQP0080KC-A_L (Thin QFP, 80-Leads, Body 12x12mm, Pitch 0.5mm, IPC High Density)
footprint PTQP0080KC-A_M (Thin QFP, 80-Leads, Body 12x12mm, Pitch 0.5mm, IPC Low Density)
part A pins: 1 ~{RES} (in), 2 XTAL (in), 3 EXTAL (in), 4 MD1 (in), 5 MD0 (in), 6 NMI (in), 7 ~{STBY} (in), 9 P52/SCK0 (io), 10 P51/RXD0 (io), 11 P50/TXD0 (io), 13 P97/~{WAIT} (io), 14 P96/F/EXCL (io), 15 P95/~{AS}/~{IOS} (io), 16 P94/~{WR} (io), 17 P93/~{RD} (io), 18 P92/~{IRQ0} (io), 19 P91/~{IRQ1} (io), 20 P90/~{IRQ2}/~{ADTRG} (io), 21 P60/FTCI/CIN0/~{KIN0} (io), 22 P61/FTOA/CIN1/~{KIN1} (io), 23 P62/FTIA/CIN2/~{KIN2}/TMIY (io), 24 P63/FTIB/CIN3/~{KIN3} (io), 25 P64/FTIC/CIN4/~{KIN4} (io), 26 P65/FTID/CIN5/~{KIN5} (io), 27 P66/FTOB/CIN6/~{KIN6}/~{IRQ6} (io), 28 P67/CIN7/~{KIN7}/~{IRQ7} (io), 30 P70/AN0 (io), 31 P71/AN1 (io), 32 P72/AN2 (io), 33 P73/AN3 (io), 34 P74/AN4 (io), 35 P75/AN5 (io), 36 P76/AN6/DA0 (io), 37 P77/AN7/DA1 (io), 39 P40/TMCI0/TXD2/IRTXD (io), 40 P41/TMO0/RXD2/IRRXD (io), 41 P42/TMRI0/SCK2 (io), 42 P43/TMCI1 (io), 43 P44/TMO1 (io), 44 P45/TMRI1 (io), 45 P46/PWX0 (io), 46 P47/PWX1 (io), 48 P27/A15 (io), 49 P26/A14 (io), 50 P25/A13 (io), 51 P24/A12 (io), 52 P23/A11 (io), 53 P22/A10 (io), 54 P21/A9 (io), 55 P20/A8 (io), 57 P17/A7 (io), 58 P16/A6 (io), 59 P15/A5 (io), 60 P14/A4 (io), 61 P13/A3 (io), 62 P12/A2 (io), 63 P11/A1 (io), 64 P10/A0 (io), 65 P30/D0 (io), 66 P31/D1 (io), 67 P32/D2 (io), 68 P33/D3 (io), 69 P34/D4 (io), 70 P35/D5 (io), 71 P36/D6 (io), 72 P37/D7 (io), 74 P80 (io), 75 P81 (io), 76 P82 (io), 77 P83 (io), 78 P84/~{IRQ3}/TXD1 (io), 79 P85/~{IRQ4}/RXD1 (io), 80 P86/~{IRQ5}/SCK1 (io)
part B pins: 8 VCC2(VCL), 12 VSS (power), 29 AVCC (power), 38 AVSS (power), 47 VCC1 (power), 56 VSS (power), 73 VSS (power)

## HD6432132XXXFA
designator U?
Mask ROM H8S/2100 Series, 2134 Group MCU, 64K ROM, 2K RAM, FP-80A Pkg; Published: 28-Aug-2009; DatasheetVersion: Rev.4.00, Jun-2006; PackageVersion: Sep-2005; PackageReference: PRQP0080JB-A; Publisher: Altium Limited; PackageDescription: 80-Pin Plastic Quad Flat Pack, 14 x 14 x 2.7 mm Body, 0.65 mm Pitch; Code_JEITA: P-QFP80-14x14-0.65; Code_IPC: QFP65P1720X1720-80; ComponentLink1Description: Manufacturer Link; ComponentLink1URL: http://sg.renesas.com/fmwk.jsp?cnt=h8s_family_landing.jsp&fp=/products/mpumcu/h8s_family/; ComponentLink2Description: Datasheet; ComponentLink2URL: http://documentation.renesas.com/eng/products/mpumcu/rej09b0301_2138hm.pdf; ComponentLink3Description: Packaging Specification; ComponentLink3URL: http://sg.renesas.com/media/products/common_info/package/pdf/ic/code/prqp0080jb_a.pdf
footprint PRQP0080JB-A_N (QFP, 80-Leads, Body 14x14mm, Pitch 0.65mm, IPC Medium Density)
footprint PRQP0080JB-A_L (QFP, 80-Leads, Body 14x14mm, Pitch 0.65mm, IPC High Density)
footprint PRQP0080JB-A_M (QFP, 80-Leads, Body 14x14mm, Pitch 0.65mm, IPC Low Density)
part A pins: 1 ~{RES} (in), 2 XTAL (in), 3 EXTAL (in), 4 MD1 (in), 5 MD0 (in), 6 NMI (in), 7 ~{STBY} (in), 9 P52/SCK0 (io), 10 P51/RXD0 (io), 11 P50/TXD0 (io), 13 P97/~{WAIT} (io), 14 P96/F/EXCL (io), 15 P95/~{AS}/~{IOS} (io), 16 P94/~{WR} (io), 17 P93/~{RD} (io), 18 P92/~{IRQ0} (io), 19 P91/~{IRQ1} (io), 20 P90/~{IRQ2}/~{ADTRG} (io), 21 P60/FTCI/CIN0/~{KIN0} (io), 22 P61/FTOA/CIN1/~{KIN1} (io), 23 P62/FTIA/CIN2/~{KIN2}/TMIY (io), 24 P63/FTIB/CIN3/~{KIN3} (io), 25 P64/FTIC/CIN4/~{KIN4} (io), 26 P65/FTID/CIN5/~{KIN5} (io), 27 P66/FTOB/CIN6/~{KIN6}/~{IRQ6} (io), 28 P67/CIN7/~{KIN7}/~{IRQ7} (io), 30 P70/AN0 (io), 31 P71/AN1 (io), 32 P72/AN2 (io), 33 P73/AN3 (io), 34 P74/AN4 (io), 35 P75/AN5 (io), 36 P76/AN6/DA0 (io), 37 P77/AN7/DA1 (io), 39 P40/TMCI0/TXD2/IRTXD (io), 40 P41/TMO0/RXD2/IRRXD (io), 41 P42/TMRI0/SCK2 (io), 42 P43/TMCI1 (io), 43 P44/TMO1 (io), 44 P45/TMRI1 (io), 45 P46/PWX0 (io), 46 P47/PWX1 (io), 48 P27/A15 (io), 49 P26/A14 (io), 50 P25/A13 (io), 51 P24/A12 (io), 52 P23/A11 (io), 53 P22/A10 (io), 54 P21/A9 (io), 55 P20/A8 (io), 57 P17/A7 (io), 58 P16/A6 (io), 59 P15/A5 (io), 60 P14/A4 (io), 61 P13/A3 (io), 62 P12/A2 (io), 63 P11/A1 (io), 64 P10/A0 (io), 65 P30/D0 (io), 66 P31/D1 (io), 67 P32/D2 (io), 68 P33/D3 (io), 69 P34/D4 (io), 70 P35/D5 (io), 71 P36/D6 (io), 72 P37/D7 (io), 74 P80 (io), 75 P81 (io), 76 P82 (io), 77 P83 (io), 78 P84/~{IRQ3}/TXD1 (io), 79 P85/~{IRQ4}/RXD1 (io), 80 P86/~{IRQ5}/SCK1 (io)
part B pins: 8 VCC2(VCL), 12 VSS (power), 29 AVCC (power), 38 AVSS (power), 47 VCC1 (power), 56 VSS (power), 73 VSS (power)